# Altium schematic symbol library fgr.SchLib: 756 symbols (part 3 of 4)
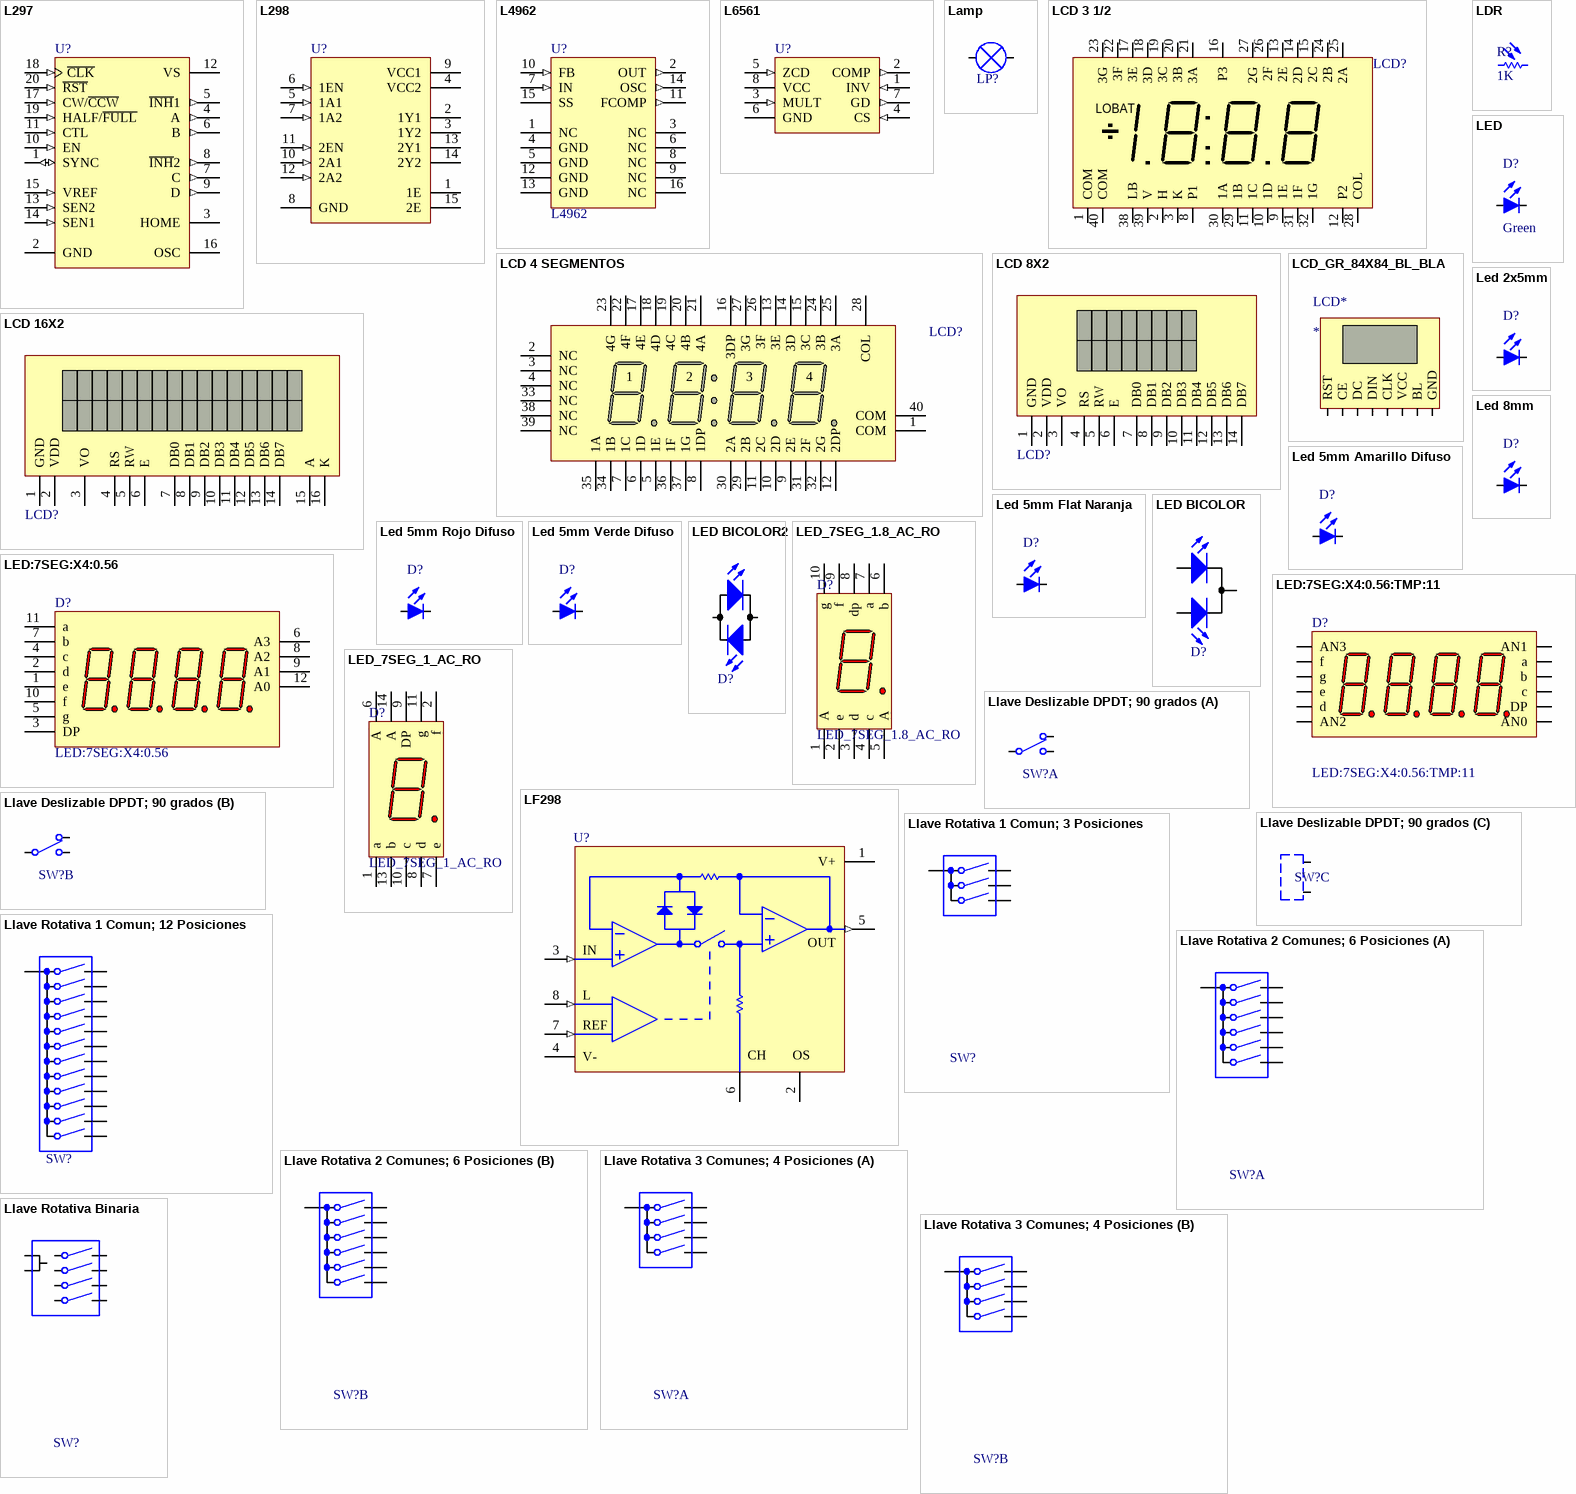
[diagram p26: symbols L297 to Llave Rotativa Binaria]

## LDR
designator R?  value 1K  (hidden comment: LDR)
Resistor; Power: 0.25W; Price: 0.036
footprint RES250TH (RESISTENCIA THROUGH-HOLE)
footprint RES300TH (RESISTENCIA THROUGH-HOLE)
simulation model RESISTOR (Resistor)
footprint RES1100TH_ALAMBRE (RESISTOR DE ALAMBRE)
footprint res900th
footprint 1206NP
footprint 0805
footprint res400th
footprint res800th
footprint res500th
footprint RES2100TH_ALAMBRE
footprint RES1500TH_ALAMBRE
footprint res800th_vertical
footprint res250th_vertical
pins: 1, 2

## LED
designator D?  Color: Green  (hidden comment: LED)
Price: ?
footprint LED3mm (LED 3MM)
footprint LED5MMRECOSTADO (LED 5MM)
footprint LEDRECT (LED RECTANGULAR)
footprint LED5MM (LED 5MM)
footprint HDR2x1 (HEADER 2x1)
simulation model LED (DIODE)
footprint 1206P
footprint 3528 (Body 3.5 x 2.8 mm (LxW typ))
pins: 1 A, 2 K

## Led 2x5mm
designator D?  (value not drawn)
Codigo Ebay: NA; Dolares Ebay: 0.06
simulation model LED (DIODE)
footprint LED 2x5mm (LED 5MM)
pins: 1 A, 2 K

## Led 5mm Amarillo Difuso
designator D?  (value not drawn)
Codigo Ebay: NA; Dolares Ebay: 0.06
simulation model LED (DIODE)
footprint LED5mm YELLOW (LED 5MM)
pins: 1 A, 2 K

## Led 5mm Flat Naranja
designator D?  (value not drawn)
Dolares Ebay: 0.06; Codigo Ebay: NA
footprint LED5mm flat naranja
simulation model LED (DIODE)
pins: 1 A, 2 K

## Led 5mm Rojo Difuso
designator D?  (value not drawn)
Codigo Ebay: NA; Dolares Ebay: 0.06
simulation model LED (DIODE)
footprint LED5mm ROJO (LED 5MM)
pins: 1 A, 2 K

## Led 5mm Verde Difuso
designator D?  (value not drawn)
Codigo Ebay: NA; Dolares Ebay: 0.06
simulation model LED (DIODE)
footprint LED5mm VERDE (LED 5MM)
pins: 1 A, 2 K

## Led 8mm
designator D?  (value not drawn)
simulation model LED (DIODE)
footprint LED8mm (LED 8MM)
pins: 1 A, 2 K

## LED BICOLOR
designator D?
Bicolor led
footprint led bicolor 5mm
pins: 1 A, 2 K, 3 A

## LED BICOLOR2
designator D?
Bicolor led
footprint led5mm (LED 5MM)
pins: 1 A, 2 K

## LED:7SEG:X4:0.56
designator D?
footprint LED:7SEG:X4:0.56
pins: 1 e "Cathode", 2 d "Cathode", 3 DP "Cathode", 4 c "Cathode", 5 g "Cathode", 6 A3 "Anode", 7 b "Cathode", 8 A2 "Anode", 9 A1 "Anode", 10 f "Cathode", 11 a "Cathode", 12 A0 "Anode"

## LED:7SEG:X4:0.56:TMP:11
designator D?
footprint LED:7SEG:X4:0.56
pins: 1 AN3 "Cathode", 2 f "Cathode", 3 g "Cathode", 4 e "Cathode", 5 d "Cathode", 6 AN2 "Cathode", 7 AN0 "Cathode", 8 DP "Cathode", 9 c "Anode", 10 b "Anode", 11 a "Anode", 12 AN1 "Anode"

## LED_7SEG_1.8_AC_RO
designator D?
footprint LED_7SEG_1.8_AC_RO
pins: 1 A "Cathode", 2 e "Cathode", 3 d "Cathode", 3 A "Anode", 4 c "Cathode", 5 A "Cathode", 6 b "Cathode", 7 a "Cathode", 8 dp "Cathode", 9 f "Anode", 10 g "Anode"

## LED_7SEG_1_AC_RO
designator D?
footprint LED_7SEG_1_AC_RO
pins: 1 a "Cathode", 2 f "Cathode", 3 A "Anode", 6 A "Anode", 7 e "Cathode", 8 d "Cathode", 9 DP "Cathode", 10 c "Cathode", 11 g "Cathode", 13 b "Cathode", 14 A "Anode"

## LF298
designator U?
Monolithic Sample-and-Hold Circuits; Price: ?
simulation model LFX98 (Model Description)
pins: 1 V+ (power), 2 OFFSET, 3 INPUT (in), 4 V- (power), 5 OUTPUT (out), 6 CH, 7 REF (in), 8 LOGIC (in)
text: OUT; IN; L; OS

## Llave Deslizable DPDT; 90 grados
designator SW?  (value not drawn)
Price: ?
footprint sw2x2 (2 Switchs de 2 posiciones)
footprint SW_90_DPDT (HEADER 3x2)
part A pins: 1 CCW, 3 COMM, 5 CW
part B pins: 2 CCW, 4 COMM, 6 CW
part C pins: 7, 8

## Llave Rotativa 1 Comun; 3 Posiciones
designator SW?  (value not drawn)
pins: 1, 2, 3, 4

## Llave Rotativa 1 Comun; 12 Posiciones
designator SW?  (value not drawn)
footprint LLAVE_ROTATIVA_1P_12W
pins: 1, 2, 3, 4, 5, 6, 7, 8, 9, 10, 11, 12, 13

## Llave Rotativa 2 Comunes; 6 Posiciones
designator SW?  (value not drawn)
footprint LLAVE_ROTATIVA_2P_6W
part A pins: 1, 2, 3, 4, 5, 6, 7
part B pins: 8, 9, 10, 11, 12, 13, 14

## Llave Rotativa 3 Comunes; 4 Posiciones
designator SW?  (value not drawn)
footprint LLAVE_ROTATIVA_2P_6W
part A pins: 8, 9, 10, 11, 12
part B pins: 8, 9, 10, 11, 12

## Llave Rotativa Binaria
designator SW?  (value not drawn)
footprint SW_ROTATIVO_BINARIO
pins: 1, 2, 3, 4, 5, 6

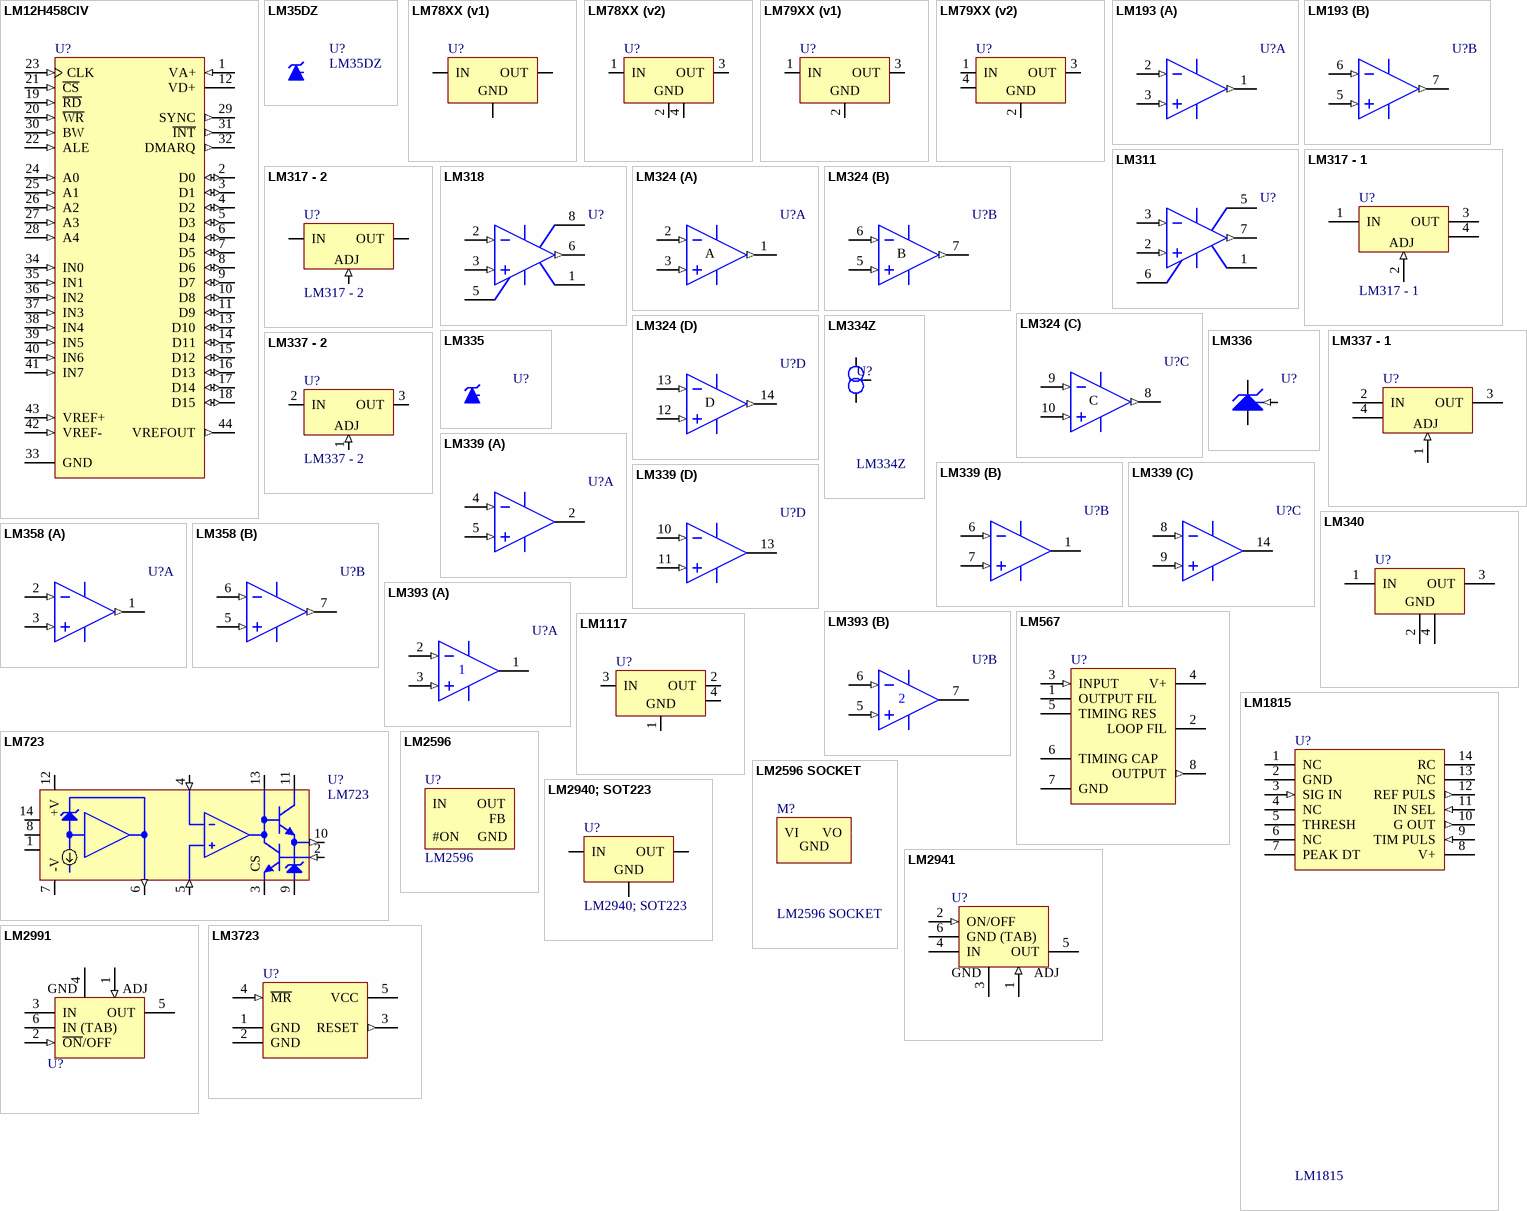
[diagram p13: symbols LM12H458CIV to LM3723]

## LM12H458CIV
designator U?
12-Bit Plus Sign Data Acquisition System with Self-Calibration; Price: ?
footprint PLCC44 (ZOCALO PLCC 44)
pins: 1 VA+ (in), 2 D0 (io), 3 D1 (io), 4 D2 (io), 5 D3 (io), 6 D4 (io), 7 D5 (io), 8 D6 (io), 9 D7 (io), 10 D8 (io), 11 D9 (io), 12 VD+ (power), 13 D10 (io), 14 D11 (io), 15 D12 (io), 16 D13 (io), 17 D14 (io), 18 D15 (io), 19 ~{RD} (in), 20 ~{WR} (in), 21 ~{CS} (in), 22 ALE (in), 23 CLK (in), 24 A0 (in), 25 A1 (in), 26 A2 (in), 27 A3 (in), 28 A4 (in), 29 SYNC (out), 30 BW (in), 31 ~{INT} (out), 32 DMARQ (out), 33 GND (power), 34 IN0 (in), 35 IN1 (in), 36 IN2 (in), 37 IN3 (in), 38 IN4 (in), 39 IN5 (in), 40 IN6 (in), 41 IN7 (in), 42 VREF- (in), 43 VREF+ (in), 44 VREFOUT (out)

## LM35DZ
designator U?
Temperature Sensor; Price: ?
footprint TO92B; pin to pad 1>3 3>1
pins: 1 K, 2 A, 3 REF

## LM78XX (v1)
designator U?
3-Terminal Positive Regulator; Price: ?
footprint TO220 (DISPOSITIVO DE ENCAPSULADO TO-220)
footprint TO220_2
pins: 1 IN (power), 2 GND (power), 3 OUT (power)

## LM78XX (v2)
designator U?
3-Terminal Positive Regulator; Price: ?
footprint SOT223 (ENCAPSULADO SOT-223)
footprint to263-3 (ENCAPSULADO TO263)
footprint TO220_2
pins: 1 IN (power), 2 GND (power), 3 OUT (power), 4 GND (power)

## LM79XX (v1)
designator U?
3-Terminal Negative Regulator; Price: ?
footprint TO220 (DISPOSITIVO DE ENCAPSULADO TO-220); pin to pad 1>2 2>1
footprint TO92B; pin to pad 1>2 2>1
pins: 1 IN (power), 2 GND (power), 3 OUT (power)

## LM79XX (v2)
designator U?
3-Terminal Negative Regulator; Price: ?
footprint TO220_2; pin to pad 1>2 2>1
pins: 1 IN (power), 2 GND (power), 3 OUT (power), 4 IN (TAB) (power)

## LM193
designator U?
Low-Power Low Offset Voltage Dual  Comparator
footprint so8 (SO8 IC)
pins on every part: 4 GND (power), 8 V+ (power)
part A pins: 1 OUT (out), 2 IN- (in), 3 IN+ (in)
part B pins: 5 IN+ (in), 6 IN- (in), 7 OUT (out)

## LM311
designator U?
Single Comparator; Price: ?
footprint DIP8z (ZOCALO DIP 8)
footprint so8 (SO8 IC)
pins: 1 GND (power), 2 IN+ (in), 3 IN- (in), 4 V- (power), 5 OFFSET1, 6 OFFSET2, 7 OUT (out), 8 V+ (power)

## LM317 - 1
designator U?
Adjustable Positive Voltage Regulator; Price: ?
footprint SOT223 (ENCAPSULADO SOT-223); pin to pad 1>3 2>1 3>2
footprint TO220_2; pin to pad 1>3 2>1 3>2
pins: 1 IN (power), 2 ADJ (in), 3 OUT (power), 4 OUT (TAB) (power)

## LM317 - 2
designator U?
Adjustable Positive Voltage Regulator; Price: ?
footprint to220 (DISPOSITIVO DE ENCAPSULADO TO-220); pin to pad 1>3 2>1 3>2
footprint TO220_V (DISPOSITIVO DE ENCAPSULADO TO-220); pin to pad 1>3 2>1 3>2
pins: 1 IN (power), 2 ADJ (in), 3 OUT (power)

## LM318
designator U?
High Speed Operational Amplifier; Price: ?
footprint DIP8z (ZOCALO DIP 8)
footprint so8 (SO8 IC)
pins: 1 OFFSET2, 2 IN- (in), 3 IN+ (in), 4 V- (power), 5 OFFSET1, 6 OUT (out), 7 V+ (power), 8 NC

## LM324
designator U?
Low Power Quad Operational Amplifier; Revision: 17-Jul-2002: Re-released for DXP Platform.
footprint DIP14Z (ZOCALO DIP14)
footprint so14 (SO14 IC)
pins on every part: 4 V+ (power), 11 V- (power)
part A pins: 1 OUT (out), 2 IN- (in), 3 IN+ (in)
part B pins: 5 IN+ (in), 6 IN- (in), 7 OUT (out)
part C pins: 8 OUT (out), 9 IN- (in), 10 IN+ (in)
part D pins: 12 IN+ (in), 13 IN- (in), 14 OUT (out)
part A text: A
part B text: B
part C text: C
part D text: D

## LM334Z
designator U?
3-Terminal Adjustable Current Source
footprint to92 (DISPOSITIVO DE ENCAPSULADO TO-92)
pins: 1 V+, 2 R, 3 V-

## LM335
designator U?
Temperature Sensor; Price: ?
footprint TO92B; pin to pad 1>3 3>1
pins: 1 K, 2 A, 3 REF

## LM336
designator U?
Reference Diode
footprint to92 (DISPOSITIVO DE ENCAPSULADO TO-92)
footprint to92b
pins: 1 -V, 2 +V, 3 ADJ (in)

## LM337 - 1
designator U?
Adjustable Negative Voltage Regulator; Price: ?
footprint SOT223 (ENCAPSULADO SOT-223)
footprint TO220_2
pins: 1 ADJ (in), 2 IN (power), 3 OUT (power), 4 IN (TAB) (power)

## LM337 - 2
designator U?
Adjustable Negative Voltage Regulator; Price: ?
footprint TO220 (DISPOSITIVO DE ENCAPSULADO TO-220)
footprint to220_v (DISPOSITIVO DE ENCAPSULADO TO-220)
pins: 1 ADJ (in), 2 IN (power), 3 OUT (power)

## LM339
designator U?
Quad Single-Supply Comparator
footprint so14 (SO14 IC)
pins on every part: 3 V+ (power), 12 GND (power)
part A pins: 2 OUT (oc), 4 IN- (in), 5 IN+ (in)
part B pins: 1 OUT (oc), 6 IN- (in), 7 IN+ (in)
part C pins: 8 IN- (in), 9 IN+ (in), 14 OUT (oc)
part D pins: 10 IN- (in), 11 IN+ (in), 13 OUT (oc)

## LM340
designator U?
3-Terminal Positive Regulator; Price: ?
footprint SOT223 (ENCAPSULADO SOT-223)
footprint to263-3 (ENCAPSULADO TO263)
footprint TO220_2
pins: 1 IN (power), 2 GND (power), 3 OUT (power), 4 GND (power)

## LM358
designator U?
Low-Power Dual Operational Amplifier
footprint DIP8Z (ZOCALO DIP 8)
pins on every part: 4 GND (power), 8 V+ (power)
part A pins: 1 OUT (out), 2 IN- (in), 3 IN+ (in)
part B pins: 5 IN+ (in), 6 IN- (in), 7 OUT (out)

## LM393
designator U?
Dual Differential Comparator
footprint SO8 (SO8 IC)
simulation model LM393 (SUBCKT)
footprint DIP8Z (ZOCALO DIP 8)
pins on every part: 4 GND (power), 8 VCC (power)
part A pins: 1 OUT (oc), 2 IN- (in), 3 IN+ (in)
part B pins: 5 IN+ (in), 6 IN- (in), 7 OUT (oc)

## LM567
designator U?
Tone Decoder
footprint DIP8Z (ZOCALO DIP 8)
pins: 1 OUTPUT FIL, 2 LOOP FIL, 3 INPUT (in), 4 V+ (power), 5 TIMING RES, 6 TIMING CAP, 7 GND (power), 8 OUTPUT (out)

## LM723
designator U?
Voltage Regulator
footprint DIP14 (DIP14 IC)
simulation model lm723 (Model Description)
pins: 1 NC, 2 ILIM (in), 3 ISEN, 4 IN- (in), 5 IN+ (in), 6 VREF (out), 7 -V (power), 8 NC, 9 VZ, 10 VO (out), 11 VCC (power), 12 +V (power), 13 FCOMP, 14 NC
text: CS

## LM1117
designator U?
3-Terminal Positive Regulator; Price: ?
footprint SOT223 (ENCAPSULADO SOT-223)
pins: 1 GND (power), 2 OUT (power), 3 IN (power), 4 GND (power)

## LM1815
designator U?
Price: ?
footprint so14 (SO14 IC)
pins: 1 NC, 2 GND (power), 3 SIG IN (in), 4 NC, 5 THRESH, 6 NC, 7 PEAK DT, 8 V+ (power), 9 TIM PULS (in), 10 G OUT (out), 11 IN SEL (in), 12 REF PULS (out), 13 NC, 14 RC

## LM2596
designator U?
Codigo Elemon: CI2707460; Dolares Elemon: 0.37399
footprint TO220-5
footprint TO220_2
pins: 1 IN (power), 2 OUT (power), 3 GND (power), 4 FB (power), 5 #ON (power)

## LM2596 SOCKET
designator M?
footprint LM2596 SOCKET
pins: 1 VI (power), 2 GND (power), 3 GND (power), 4 VO (power), 5 ADJ1 (power), 6 ADJ2 (power), 7 ADJ3 (power)

## LM2940; SOT223
designator U?
Dolares Elemon: 1.07900; Codigo Elemon: CI2707266
footprint SOT223 (ENCAPSULADO SOT-223)
pins: 1 IN (power), 2 GND (power), 3 OUT (power)

## LM2941
designator U?
1A Dropout Adjustable Regulator; Price: ?
footprint to263-5 (ENCAPSULADO TO263)
pins: 1 ADJ (in), 2 ON/OFF (in), 3 GND (power), 4 IN (power), 5 OUT (power), 6 GND (TAB) (power)

## LM2991
designator U?
Negative Low-Dropout Adjustable Regulator; Price: ?
footprint TO263 (ENCAPSULADO TO263)
pins: 1 ADJ (in), 2 ~{ON}/OFF (in), 3 IN (power), 4 GND (power), 5 OUT (power), 6 IN (TAB) (power)

## LM3723
designator U?
Microprocessor Reset Circuit; Price: ?
footprint sot23-5
pins: 1 GND (power), 2 GND (power), 3 RESET (out), 4 ~{MR} (in), 5 VCC (power)

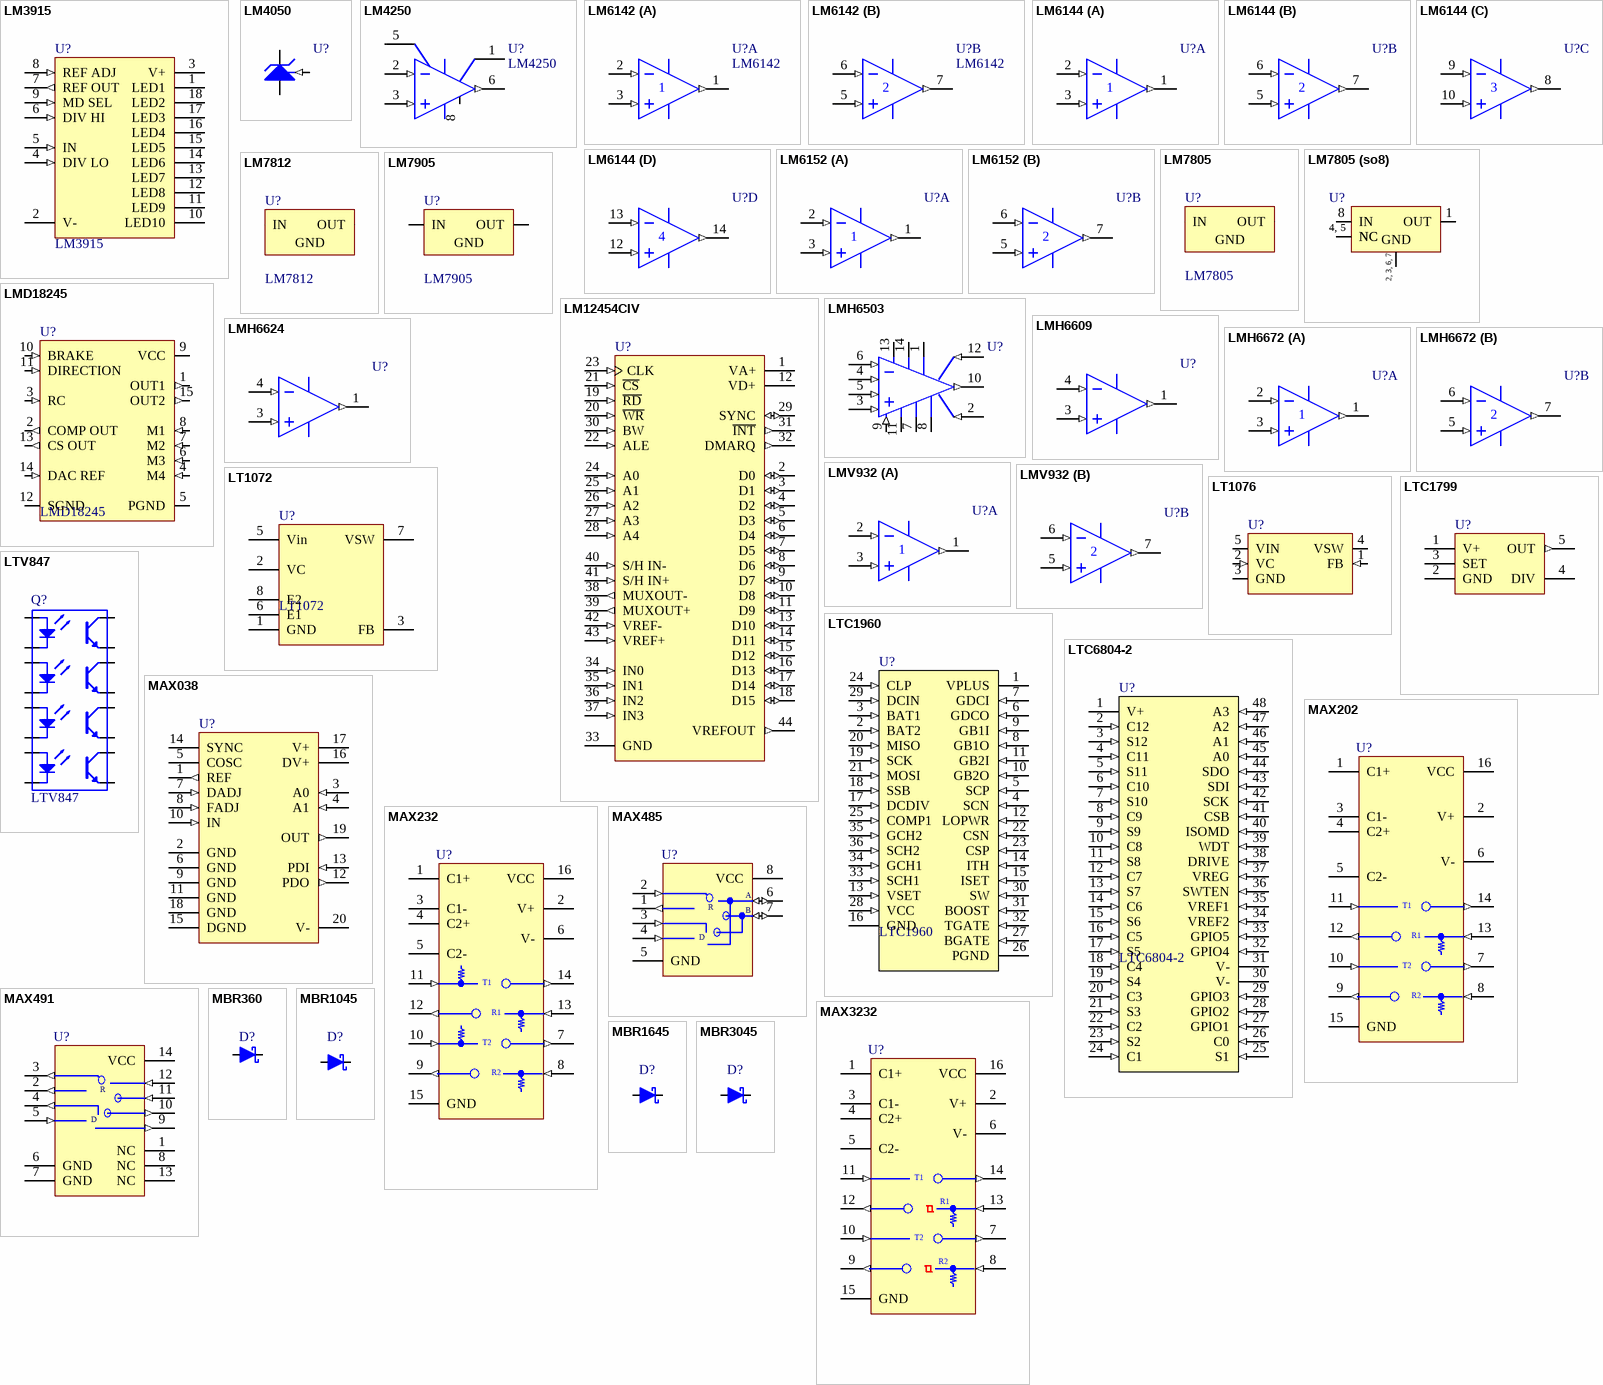
[diagram p14: symbols LM3915 to MBR3045]

## LM3915
designator U?
Dot/Bar Display Driver
footprint dip18z (ZOCALO DIP18)
pins: 1 LED1 (oc), 2 V- (power), 3 V+ (power), 4 DIV LO (in), 5 IN (in), 6 DIV HI (in), 7 REF OUT (out), 8 REF ADJ (in), 9 MD SEL (in), 10 LED10 (oc), 11 LED9 (oc), 12 LED8 (oc), 13 LED7 (oc), 14 LED6 (oc), 15 LED5 (oc), 16 LED4 (oc), 17 LED3 (oc), 18 LED2 (oc)

## LM4050
designator U?
Reference Diode
footprint to92 (DISPOSITIVO DE ENCAPSULADO TO-92)
footprint sot23 (SOT23)
pins: 1 +V, 2 -V, 3 ADJ (in)

## LM4250
designator U?
Operational Amplifier; Price: ?
footprint DIP8z (ZOCALO DIP 8)
pins: 1 OFFSET2, 2 IN- (in), 3 IN+ (in), 4 V- (power), 5 OFFSET1, 6 OUT (out), 7 V+ (power), 8 SET

## LM6142
designator U?
High-Speed/Low-Power 17MHz Rail-to-Rail, Input-Output Operational Amplifier; Price: ?
footprint SO8 (SO8 IC)
simulation model LM6142A (Model Description)
pins on every part: 4 V- (power), 8 V+ (power)
part A pins: 1 OUT (out), 2 IN- (in), 3 IN+ (in)
part B pins: 5 IN+ (in), 6 IN- (in), 7 OUT (out)

## LM6144
designator U?
High-Speed/Low-Power 17MHz Rail-to-Rail, Input-Output Operational Amplifier; Price: ?
footprint SO14 (SO14 IC)
pins on every part: 4 V+ (power), 11 V- (power)
part A pins: 1 OUT (out), 2 IN- (in), 3 IN+ (in)
part B pins: 5 IN+ (in), 6 IN- (in), 7 OUT (out)
part C pins: 8 OUT (out), 9 IN- (in), 10 IN+ (in)
part D pins: 12 IN+ (in), 13 IN- (in), 14 OUT (out)

## LM6152
designator U?
Dual High-Speed/Low-Power 75MHz GBW Rail-to-Rail I/O Operational Amplifier; Price: ?
simulation model LM6152A_NSC (SUBCKT)
pins on every part: 4 V- (power), 8 V+ (power)
part A pins: 1 OUT (out), 2 IN- (in), 3 IN+ (in)
part B pins: 5 IN+ (in), 6 IN- (in), 7 OUT (out)

## LM7805
designator U?
Codigo Elemon: CI2707460; Dolares Elemon: 0.37399
footprint TO220 (DISPOSITIVO DE ENCAPSULADO TO-220)
footprint TO220_2
pins: 1 IN (power), 2 GND (power), 3 OUT (power)

## LM7805 (so8)
designator U?
Positive-Voltage Regulator
footprint SO8 (SO8 IC)
pins: 1 OUT (power), 2 GND (power), 3 GND (power), 4 NC, 5 NC, 6 GND (power), 7 GND (power), 8 IN (power)
text: 4, 5; 2, 3, 6, 7

## LM7812
designator U?
Codigo Elemon: CI270LIN007812S; Dolares Elemon: 0.33880
footprint TO220 (DISPOSITIVO DE ENCAPSULADO TO-220)
footprint TO220_2
pins: 1 IN (power), 2 GND (power), 3 OUT (power)

## LM7905
designator U?
footprint TO220 (DISPOSITIVO DE ENCAPSULADO TO-220)
footprint TO220_2
pins: 1 GND (power), 2 IN (power), 3 OUT (power)

## LM12454CIV
designator U?
12-Bit Plus Sign Data Acquisition System with Self-Calibration; Price: ?
footprint PLCC44 (ZOCALO PLCC 44)
pins: 1 VA+ (power), 2 D0 (io), 3 D1 (io), 4 D2 (io), 5 D3 (io), 6 D4 (io), 7 D5 (io), 8 D6 (io), 9 D7 (io), 10 D8 (io), 11 D9 (io), 12 VD+ (power), 13 D10 (io), 14 D11 (io), 15 D12 (io), 16 D13 (io), 17 D14 (io), 18 D15 (io), 19 ~{RD} (in), 20 ~{WR} (in), 21 ~{CS} (in), 22 ALE (in), 23 CLK (in), 24 A0 (in), 25 A1 (in), 26 A2 (in), 27 A3 (in), 28 A4 (in), 29 SYNC (io), 30 BW (in), 31 ~{INT} (out), 32 DMARQ (out), 33 GND (power), 34 IN0 (in), 35 IN1 (in), 36 IN2 (in), 37 IN3 (in), 38 MUXOUT- (out), 39 MUXOUT+ (out), 40 S/H IN- (in), 41 S/H IN+ (in), 42 VREF- (in), 43 VREF+ (in), 44 VREFOUT (out)

## LMD18245
designator U?
Dual Full-H Driver; Price: ?
footprint TO220-15 (DISPOSITIVO DE ENCAPSULADO TO-220 DE 15 PNES)
pins: 1 OUT1 (out), 2 COMP OUT (out), 3 RC (in), 4 M4 (in), 5 PGND (power), 6 M3 (in), 7 M2 (in), 8 M1 (in), 9 VCC (power), 10 BRAKE (in), 11 DIRECTION (in), 12 SGND (power), 13 CS OUT (out), 14 DAC REF (in), 15 OUT2 (out)

## LMH6503
designator U?
Wideband, Low Power, Linear Variable Gain Amplifier; Price: ?
simulation model LMH6503 (SUBCKT)
pins: 1 V+ (power), 2 VG (in), 3 IN+ (in), 4 RG+ (in), 5 RG- (in), 6 IN- (in), 7 V- (power), 8 V- (power), 9 VREF (in), 10 OUT (out), 11 GND (power), 12 I- (in), 13 NC, 14 V+ (power)

## LMH6609
designator U?
Operational Amplifier; Price: ?
simulation model LMH6609 (SUBCKT)
pins: 1 OUT (out), 2 V- (power), 3 IN+ (in), 4 IN- (in), 5 V+ (power)

## LMH6624
designator U?
Operational Amplifier; Price: ?
simulation model LMH6624 (SUBCKT)
pins: 1 OUT (out), 2 V- (power), 3 IN+ (in), 4 IN- (in), 5 V+ (power)

## LMH6672
designator U?
Dual, High Output Current, High Speed Op Amp; Price: ?
footprint SOIC8 (Small Outline; 8 Leads; Body Width 6 mm; Pitch 1.27 mm)
pins on every part: 4 V- (power), 8 V+ (power)
part A pins: 1 OUT (out), 2 IN- (in), 3 IN+ (in)
part B pins: 5 IN+ (in), 6 IN- (in), 7 OUT (out)

## LMV932
designator U?
Rail-to-Rail, Input-Output Operational Amplifier; Price: ?
footprint MSOP8-065
pins on every part: 4 V- (power), 8 V+ (power)
part A pins: 1 OUT (out), 2 IN- (in), 3 IN+ (in)
part B pins: 5 IN+ (in), 6 IN- (in), 7 OUT (out)

## LT1072
designator U?
footprint DIP8Z (ZOCALO DIP 8)
pins: 1 GND (power), 2 VC, 3 FB, 5 Vin (power), 6 E1, 7 VSW, 8 E2

## LT1076
designator U?
Step-Down Switching Regulator
footprint TO220 - 5 - 90
pins: 1 FB (in), 2 VC (in), 3 GND (power), 4 VSW (power), 5 VIN (power)

## LTC1799
designator U?
1kHz to 33MHz / Resistor Set SOT-23 Oscillator; Revision: 17-Jul-2002: Re-released for DXP Platform.
footprint DIP8Z (ZOCALO DIP 8)
footprint SOT23-5
pins: 1 V+ (power), 2 GND (power), 3 SET, 4 DIV, 5 OUT (out)

## LTC1960
designator U?
Revision: 17-Jul-2002: Re-released for DXP Platform.
footprint TSSOP36_065
pins: 1 VPLUS (power), 2 BAT2 (in), 3 BAT1 (in), 4 SCN (in), 5 SCP (in), 6 GDCO (in), 7 GDCI (in), 8 GB1O (in), 9 GB1I (in), 10 GB2O (in), 11 GB2I (in), 12 LOPWR (in), 13 VSET (in), 14 ITH (in), 15 ISET (in), 16 GND (power), 17 DCDIV (in), 18 SSB (in), 19 SCK (in), 20 MISO (in), 21 MOSI (in), 22 CSN (in), 23 CSP (in), 24 CLP (in), 25 COMP1 (in), 26 PGND (power), 27 BGATE (in), 28 VCC (in), 29 DCIN (in), 30 SW (in), 31 BOOST (in), 32 TGATE (in), 33 SCH1 (in), 34 GCH1 (in), 35 GCH2 (in), 36 SCH2 (in)

## LTC6804-2
designator U?
Revision: 17-Jul-2002: Re-released for DXP Platform.
footprint TSSOP48_05 (TSSOP 48 IC)
pins: 1 V+ (power), 2 C12 (in), 3 S12 (in), 4 C11 (in), 5 S11 (in), 6 C10 (in), 7 S10 (in), 8 C9 (in), 9 S9 (in), 10 C8 (in), 11 S8 (in), 12 C7 (in), 13 S7 (in), 14 C6 (in), 15 S6 (in), 16 C5 (in), 17 S5 (in), 18 C4 (in), 19 S4 (in), 20 C3 (in), 21 S3 (in), 22 C2 (in), 23 S2 (in), 24 C1 (in), 25 S1 (in), 26 C0 (in), 27 GPIO1 (in), 28 GPIO2 (in), 29 GPIO3 (in), 30 V- (power), 31 V- (power), 32 GPIO4 (in), 33 GPIO5 (in), 34 VREF2 (in), 35 VREF1 (in), 36 SWTEN (in), 37 VREG (in), 38 DRIVE (in), 39 WDT (in), 40 ISOMD (in), 41 CSB (in), 42 SCK (in), 43 SDI (in), 44 SDO (in), 45 A0 (in), 46 A1 (in), 47 A2 (in), 48 A3 (in)

## LTV847
designator Q?
Optoaislador; Price: ?
footprint DIP16Z (ZOCALO DIP16)
pins: 1 A, 2 K, 3 A, 4 K, 5 A, 6 K, 7 A, 8 K, 9 E, 10 C, 11 E, 12 C, 13 E, 14 C, 15 E, 16 C

## MAX038
designator U?
High-Frequency Waveform Generator; Revision: 17-Jul-2002: Re-released for DXP Platform.
footprint DIP20Z
pins: 1 REF (out), 2 GND (power), 3 A0 (in), 4 A1 (in), 5 COSC, 6 GND (power), 7 DADJ (in), 8 FADJ (in), 9 GND (power), 10 IN (in), 11 GND (power), 12 PDO (out), 13 PDI (in), 14 SYNC, 15 DGND (power), 16 DV+ (power), 17 V+ (power), 18 GND (power), 19 OUT (out), 20 V- (power)

## MAX202
designator U?
+5V-Powered, Multichannel RS-232 Driver/Receiver; Price: ?
footprint DIP16 (DIP16 IC)
footprint DIP16Z (ZOCALO DIP16)
footprint so16 (SO16 IC)
pins: 1 C1+, 2 V+ (power), 3 C1-, 4 C2+, 5 C2-, 6 V- (power), 7 T2OUT (out), 8 R2IN (in), 9 R2OUT (out), 10 T2IN (in), 11 T1IN (in), 12 R1OUT (out), 13 R1IN (in), 14 T1OUT (out), 15 GND (power), 16 VCC (power)
text: T1; R1; T2; R2

## MAX232
designator U?
+5V-Powered, Multichannel RS-232 Driver/Receiver; Price: ?
footprint DIP16 (DIP16 IC)
footprint DIP16Z (ZOCALO DIP16)
pins: 1 C1+, 2 V+ (power), 3 C1-, 4 C2+, 5 C2-, 6 V- (power), 7 T2OUT (out), 8 R2IN (in), 9 R2OUT (out), 10 T2IN (in), 11 T1IN (in), 12 R1OUT (out), 13 R1IN (in), 14 T1OUT (out), 15 GND (power), 16 VCC (power)
text: T1; R1; T2; R2

## MAX485
designator U?
Low-Power, Slew-Rate-Limited RS-485/RS-422 Transceiver; Revision: 17-Jul-2002: Re-released for DXP Platform.
footprint DIP8Z (ZOCALO DIP 8)
pins: 1 RO (out), 2 ~{RE} (in), 3 DE (in), 4 DI (in), 5 GND (power), 6 A (io), 7 B (io), 8 VCC (power)
text: R; D

## MAX491
designator U?
Low-Power, Slew-Rate-Limited RS-485/RS-422 Transceiver; Revision: 17-Jul-2002: Re-released for DXP Platform.
footprint DIP14Z (ZOCALO DIP14)
pins: 1 NC, 2 RO (out), 3 ~{RE} (out), 4 DE (out), 5 DI (in), 6 GND (power), 7 GND (power), 8 NC, 9 Y (out), 10 Z (out), 11 B (in), 12 A (in), 13 NC, 14 VCC (power)
text: R; D

## MAX3232
designator U?
+3.3V to +5V Multichannel RS-232 Driver/Receiver; Price: ?
footprint DIP16 (DIP16 IC)
footprint DIP16Z (ZOCALO DIP16)
pins: 1 C1+, 2 V+ (power), 3 C1-, 4 C2+, 5 C2-, 6 V- (power), 7 T2OUT (out), 8 R2IN (in), 9 R2OUT (out), 10 T2IN (in), 11 T1IN (in), 12 R1OUT (out), 13 R1IN (in), 14 T1OUT (out), 15 GND (power), 16 VCC (power)
text: T1; R1; T2; R2

## MBR360
designator D?
Schottky Diode 3A 60V; Revision: July-2002: Re-released for DXP Platform.
footprint DIODE300 (DIODO THROUGH-HOLE)
footprint diode600
simulation model MBR360 (MDL)
pins: 1 A, 2 K

## MBR1045
designator D?
Schottky Diode 10A 45V; Revision: July-2002: Re-released for DXP Platform.
simulation model MBR1045 (MDL)
footprint TO220-2; pin to pad 1>2 2>1
pins: 1 A, 2 K

## MBR1645
designator D?
Schottky Diode 16A 45V; Revision: July-2002: Re-released for DXP Platform.
simulation model MBR1645 (MDL)
footprint TO220-2; pin to pad 1>2 2>1
footprint TO220_4
pins: 1 A, 2 K

## MBR3045
designator D?
Schottky Diode 30A 45V; Revision: July-2002: Re-released for DXP Platform.
simulation model MBR3045 (MDL)
pins: 1 A, 2 K

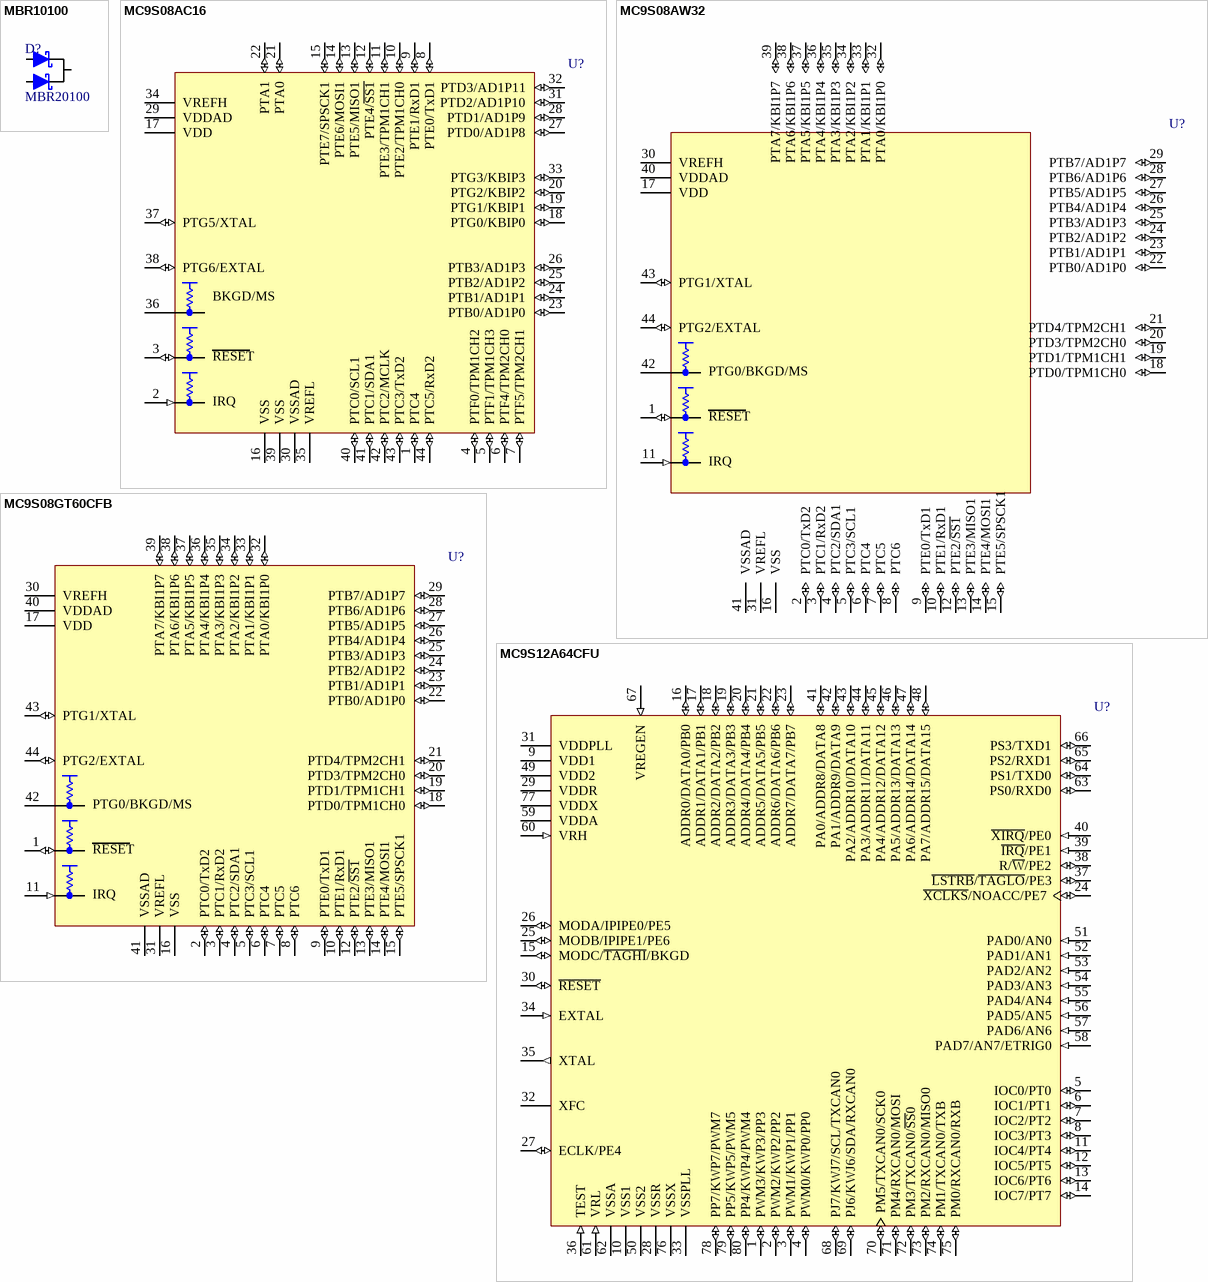
[diagram p15: symbols MBR10100 to MC9S12A64CFU]

## MBR10100
designator D?, comment MBR20100
Schottky Diode 10A 45V; Revision: July-2002: Re-released for DXP Platform.
footprint TO220 (DISPOSITIVO DE ENCAPSULADO TO-220); pin to pad 1>2 2>1
pins: 1 A, 2 K, 3 A

## MC9S08AC16
designator U?
8-Bit Microcontroller
footprint QFP44_08MM
pins: 1 PTC4 (io), 2 IRQ (in), 3 ~{RESET} (io), 4 PTF0/TPM1CH2 (io), 5 PTF1/TPM1CH3 (io), 6 PTF4/TPM2CH0 (io), 7 PTF5/TPM2CH1 (io), 8 PTE0/TxD1 (io), 9 PTE1/RxD1 (io), 10 PTE2/TPM1CH0 (io), 11 PTE3/TPM1CH1 (io), 12 PTE4/~{SS1} (io), 13 PTE5/MISO1 (io), 14 PTE6/MOSI1 (io), 15 PTE7/SPSCK1 (io), 16 VSS (power), 17 VDD (power), 18 PTG0/KBIP0 (io), 19 PTG1/KBIP1 (io), 20 PTG2/KBIP2 (io), 21 PTA0 (io), 22 PTA1 (io), 23 PTB0/AD1P0 (io), 24 PTB1/AD1P1 (io), 25 PTB2/AD1P2 (io), 26 PTB3/AD1P3 (io), 27 PTD0/AD1P8 (io), 28 PTD1/AD1P9 (io), 29 VDDAD (power), 30 VSSAD (power), 31 PTD2/AD1P10 (io), 32 PTD3/AD1P11 (io), 33 PTG3/KBIP3 (io), 34 VREFH (power), 35 VREFL (power), 36 BKGD/MS, 37 PTG5/XTAL (io), 38 PTG6/EXTAL (io), 39 VSS (power), 40 PTC0/SCL1 (io), 41 PTC1/SDA1 (io), 42 PTC2/MCLK (io), 43 PTC3/TxD2 (io), 44 PTC5/RxD2 (io)
text: RESET

## MC9S08AW32
designator U?
8-Bit Microcontroller
footprint QFP64_08MM (Footprint not found)
pins: 1 ~{RESET} (io), 2 PTC0/TxD2 (io), 3 PTC1/RxD2 (io), 4 PTC2/SDA1 (io), 5 PTC3/SCL1 (io), 6 PTC4 (io), 7 PTC5 (io), 8 PTC6 (io), 9 PTE0/TxD1 (io), 10 PTE1/RxD1 (io), 11 IRQ (in), 12 PTE2/~{SS1} (io), 13 PTE3/MISO1 (io), 14 PTE4/MOSI1 (io), 15 PTE5/SPSCK1 (io), 16 VSS (power), 17 VDD (power), 18 PTD0/TPM1CH0 (io), 19 PTD1/TPM1CH1 (io), 20 PTD3/TPM2CH0 (io), 21 PTD4/TPM2CH1 (io), 22 PTB0/AD1P0 (io), 23 PTB1/AD1P1 (io), 24 PTB2/AD1P2 (io), 25 PTB3/AD1P3 (io), 26 PTB4/AD1P4 (io), 27 PTB5/AD1P5 (io), 28 PTB6/AD1P6 (io), 29 PTB7/AD1P7 (io), 30 VREFH (power), 31 VREFL (power), 32 PTA0/KBI1P0 (io), 33 PTA1/KBI1P1 (io), 34 PTA2/KBI1P2 (io), 35 PTA3/KBI1P3 (io), 36 PTA4/KBI1P4 (io), 37 PTA5/KBI1P5 (io), 38 PTA6/KBI1P6 (io), 39 PTA7/KBI1P7 (io), 40 VDDAD (power), 41 VSSAD (power), 42 PTG0/BKGD/MS, 43 PTG1/XTAL (io), 44 PTG2/EXTAL (io)
text: RESET

## MC9S08GT60CFB
designator U?
8-Bit Microcontroller
footprint QFP44_08MM
pins: 1 ~{RESET} (io), 2 PTC0/TxD2 (io), 3 PTC1/RxD2 (io), 4 PTC2/SDA1 (io), 5 PTC3/SCL1 (io), 6 PTC4 (io), 7 PTC5 (io), 8 PTC6 (io), 9 PTE0/TxD1 (io), 10 PTE1/RxD1 (io), 11 IRQ (in), 12 PTE2/~{SS1} (io), 13 PTE3/MISO1 (io), 14 PTE4/MOSI1 (io), 15 PTE5/SPSCK1 (io), 16 VSS (power), 17 VDD (power), 18 PTD0/TPM1CH0 (io), 19 PTD1/TPM1CH1 (io), 20 PTD3/TPM2CH0 (io), 21 PTD4/TPM2CH1 (io), 22 PTB0/AD1P0 (io), 23 PTB1/AD1P1 (io), 24 PTB2/AD1P2 (io), 25 PTB3/AD1P3 (io), 26 PTB4/AD1P4 (io), 27 PTB5/AD1P5 (io), 28 PTB6/AD1P6 (io), 29 PTB7/AD1P7 (io), 30 VREFH (power), 31 VREFL (power), 32 PTA0/KBI1P0 (io), 33 PTA1/KBI1P1 (io), 34 PTA2/KBI1P2 (io), 35 PTA3/KBI1P3 (io), 36 PTA4/KBI1P4 (io), 37 PTA5/KBI1P5 (io), 38 PTA6/KBI1P6 (io), 39 PTA7/KBI1P7 (io), 40 VDDAD (power), 41 VSSAD (power), 42 PTG0/BKGD/MS, 43 PTG1/XTAL (io), 44 PTG2/EXTAL (io)
text: RESET

## MC9S12A64CFU
designator U?
16-Bit Microcontroller; Price: ?
footprint QFP80_065
pins: 1 PWM3/KWP3/PP3 (io), 2 PWM2/KWP2/PP2 (io), 3 PWM1/KWP1/PP1 (io), 4 PWM0/KWP0/PP0 (io), 5 IOC0/PT0 (io), 6 IOC1/PT1 (io), 7 IOC2/PT2 (io), 8 IOC3/PT3 (io), 9 VDD1 (power), 10 VSS1 (power), 11 IOC4/PT4 (io), 12 IOC5/PT5 (io), 13 IOC6/PT6 (io), 14 IOC7/PT7 (io), 15 MODC/~{TAGHI}/BKGD (io), 16 ADDR0/DATA0/PB0 (io), 17 ADDR1/DATA1/PB1 (io), 18 ADDR2/DATA2/PB2 (io), 19 ADDR3/DATA3/PB3 (io), 20 ADDR4/DATA4/PB4 (io), 21 ADDR5/DATA5/PB5 (io), 22 ADDR6/DATA6/PB6 (io), 23 ADDR7/DATA7/PB7 (io), 24 ~{XCLKS}/NOACC/PE7 (io), 25 MODB/IPIPE1/PE6 (io), 26 MODA/IPIPE0/PE5 (io), 27 ECLK/PE4 (io), 28 VSSR (power), 29 VDDR (power), 30 ~{RESET} (io), 31 VDDPLL (power), 32 XFC, 33 VSSPLL (power), 34 EXTAL (in), 35 XTAL (out), 36 TEST (in), 37 ~{LSTRB}/~{TAGLO}/PE3 (io), 38 R/~{W}/PE2 (io), 39 ~{IRQ}/PE1 (in), 40 ~{XIRQ}/PE0 (in), 41 PA0/ADDR8/DATA8 (io), 42 PA1/ADDR9/DATA9 (io), 43 PA2/ADDR10/DATA10 (io), 44 PA3/ADDR11/DATA11 (io), 45 PA4/ADDR12/DATA12 (io), 46 PA5/ADDR13/DATA13 (io), 47 PA6/ADDR14/DATA14 (io), 48 PA7/ADDR15/DATA15 (io), 49 VDD2 (power), 50 VSS2 (power), 51 PAD0/AN0 (in), 52 PAD1/AN1 (in), 53 PAD2/AN2 (in), 54 PAD3/AN3 (in), 55 PAD4/AN4 (in), 56 PAD5/AN5 (in), 57 PAD6/AN6 (in), 58 PAD7/AN7/ETRIG0 (in), 59 VDDA (power), 60 VRH (in), 61 VRL (in), 62 VSSA (power), 63 PS0/RXD0 (io), 64 PS1/TXD0 (io), 65 PS2/RXD1 (io), 66 PS3/TXD1 (io), 67 VREGEN (in), 68 PJ7/KWJ7/SCL/TXCAN0 (io), 69 PJ6/KWJ6/SDA/RXCAN0 (io), 70 PM5/TXCAN0/SCK0 (io), 71 PM4/RXCAN0/MOSI (io), 72 PM3/TXCAN0/~{SS}0 (io), 73 PM2/RXCAN0/MISO0 (io), 74 PM1/TXCAN0/TXB (io), 75 PM0/RXCAN0/RXB (io), 76 VSSX (power), 77 VDDX (power), 78 PP7/KWP7/PWM7 (io), 79 PP5/KWP5/PWM5 (io), 80 PP4/KWP4/PWM4 (io)

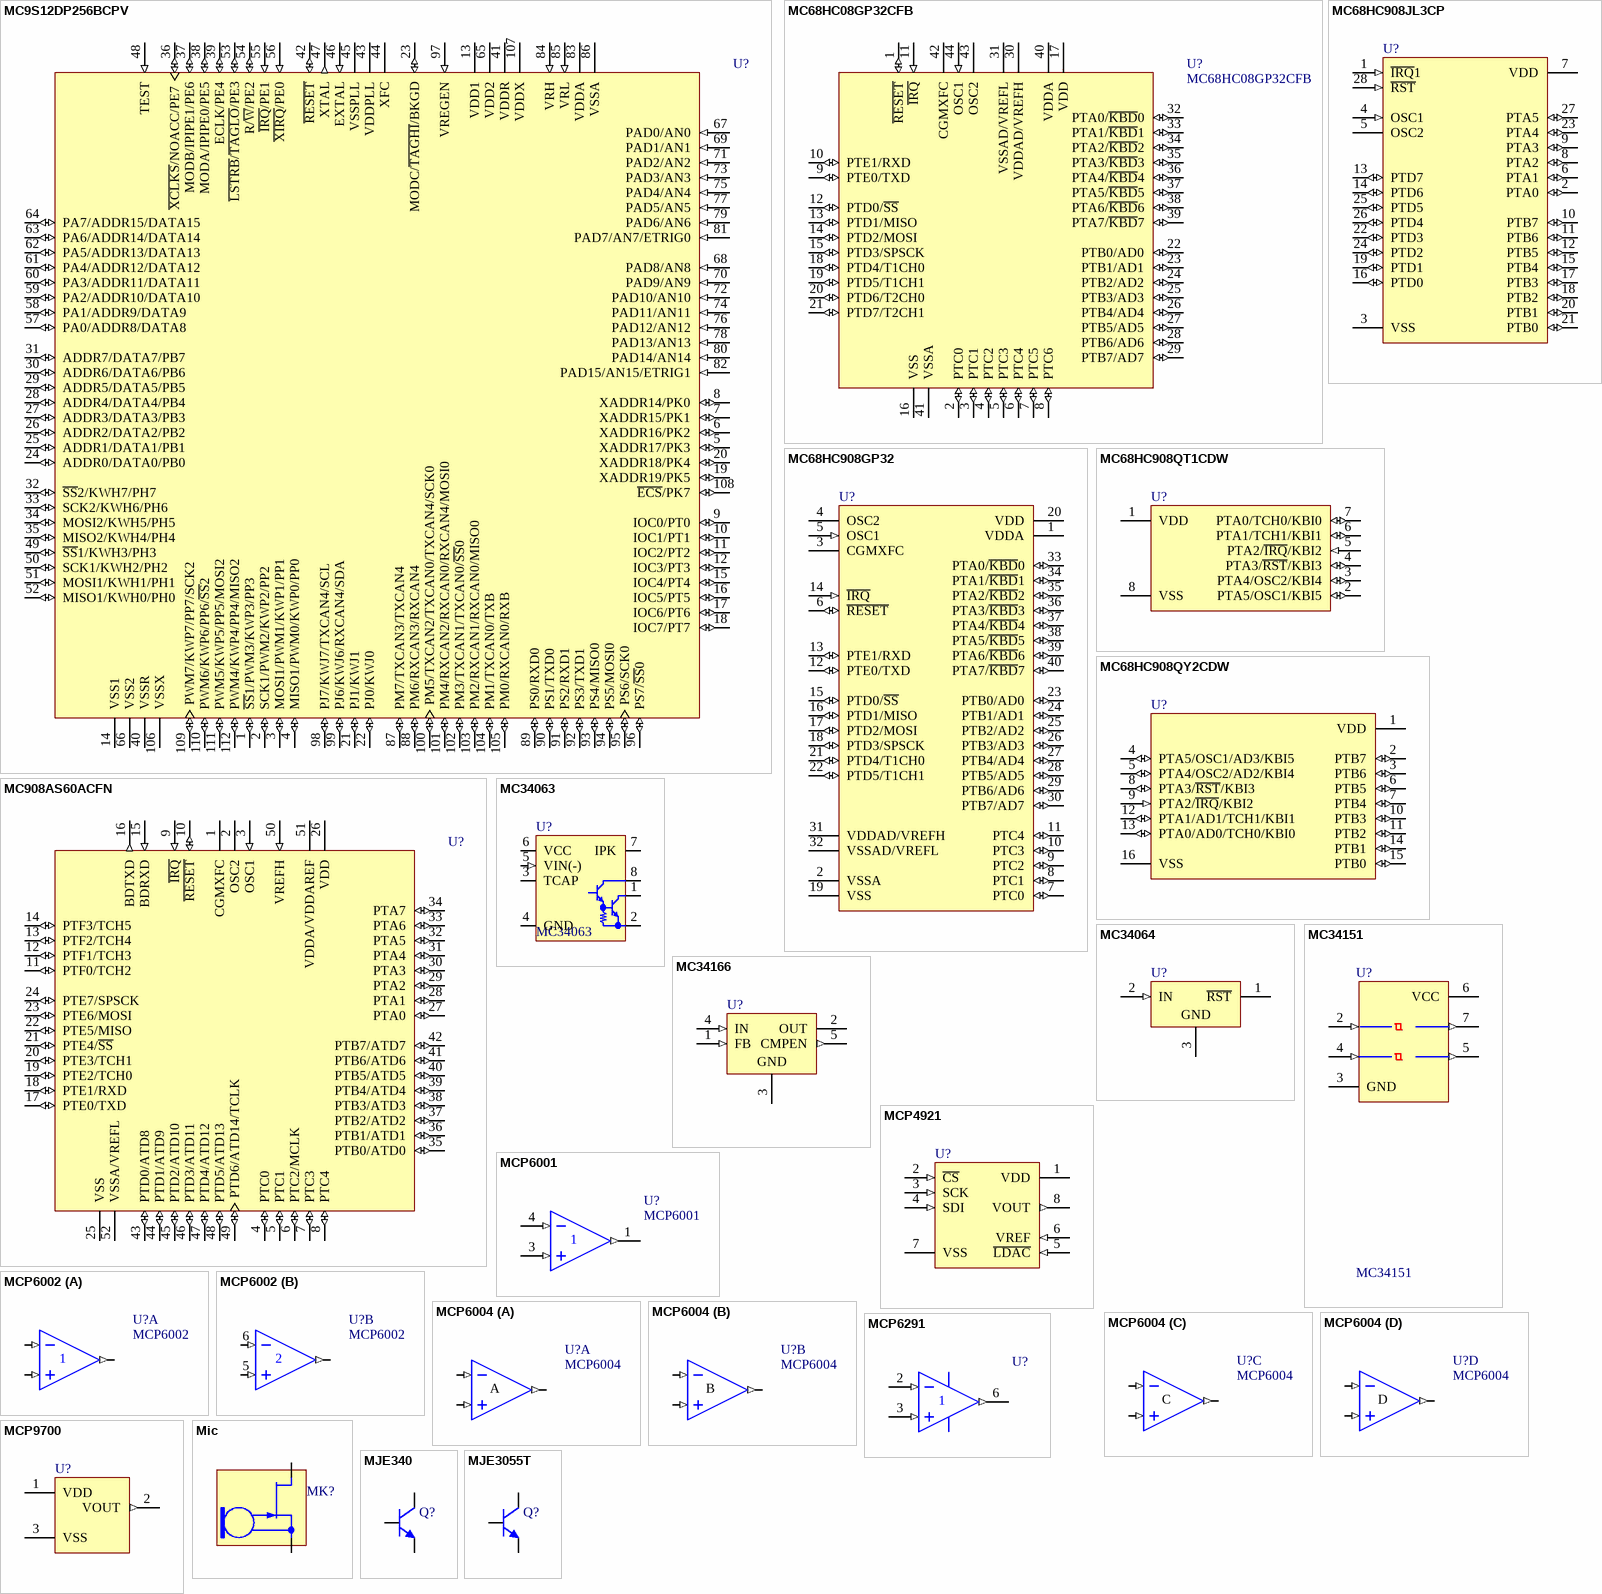
[diagram p16: symbols MC9S12DP256BCPV to MJE3055T]

## MC9S12DP256BCPV
designator U?
16-Bit Microcontroller
footprint QFP112_065
pins: 1 ~{SS}1/PWM3/KWP3/PP3 (io), 2 SCK1/PWM2/KWP2/PP2 (io), 3 MOSI1/PWM1/KWP1/PP1 (io), 4 MISO1/PWM0/KWP0/PP0 (io), 5 XADDR17/PK3 (io), 6 XADDR16/PK2 (io), 7 XADDR15/PK1 (io), 8 XADDR14/PK0 (io), 9 IOC0/PT0 (io), 10 IOC1/PT1 (io), 11 IOC2/PT2 (io), 12 IOC3/PT3 (io), 13 VDD1 (power), 14 VSS1 (power), 15 IOC4/PT4 (io), 16 IOC5/PT5 (io), 17 IOC6/PT6 (io), 18 IOC7/PT7 (io), 19 XADDR19/PK5 (io), 20 XADDR18/PK4 (io), 21 PJ1/KWJ1 (io), 22 PJ0/KWJ0 (io), 23 MODC/~{TAGHI}/BKGD (io), 24 ADDR0/DATA0/PB0 (io), 25 ADDR1/DATA1/PB1 (io), 26 ADDR2/DATA2/PB2 (io), 27 ADDR3/DATA3/PB3 (io), 28 ADDR4/DATA4/PB4 (io), 29 ADDR5/DATA5/PB5 (io), 30 ADDR6/DATA6/PB6 (io), 31 ADDR7/DATA7/PB7 (io), 32 ~{SS}2/KWH7/PH7 (io), 33 SCK2/KWH6/PH6 (io), 34 MOSI2/KWH5/PH5 (io), 35 MISO2/KWH4/PH4 (io), 36 ~{XCLKS}/NOACC/PE7 (io), 37 MODB/IPIPE1/PE6 (io), 38 MODA/IPIPE0/PE5 (io), 39 ECLK/PE4 (io), 40 VSSR (power), 41 VDDR (power), 42 ~{RESET} (io), 43 VDDPLL (power), 44 XFC, 45 VSSPLL (power), 46 EXTAL (in), 47 XTAL (out), 48 TEST (in), 49 ~{SS}1/KWH3/PH3 (io), 50 SCK1/KWH2/PH2 (io), 51 MOSI1/KWH1/PH1 (io), 52 MISO1/KWH0/PH0 (io), 53 ~{LSTRB}/~{TAGLO}/PE3 (io), 54 R/~{W}/PE2 (io), 55 ~{IRQ}/PE1 (in), 56 ~{XIRQ}/PE0 (in), 57 PA0/ADDR8/DATA8 (io), 58 PA1/ADDR9/DATA9 (io), 59 PA2/ADDR10/DATA10 (io), 60 PA3/ADDR11/DATA11 (io), 61 PA4/ADDR12/DATA12 (io), 62 PA5/ADDR13/DATA13 (io), 63 PA6/ADDR14/DATA14 (io), 64 PA7/ADDR15/DATA15 (io), 65 VDD2 (power), 66 VSS2 (power), 67 PAD0/AN0 (in), 68 PAD8/AN8 (in), 69 PAD1/AN1 (in), 70 PAD9/AN9 (in), 71 PAD2/AN2 (in), 72 PAD10/AN10 (in), 73 PAD3/AN3 (in), 74 PAD11/AN11 (in), 75 PAD4/AN4 (in), 76 PAD12/AN12 (in), 77 PAD5/AN5 (in), 78 PAD13/AN13 (in), 79 PAD6/AN6 (in), 80 PAD14/AN14 (in), 81 PAD7/AN7/ETRIG0 (in), 82 PAD15/AN15/ETRIG1 (in), 83 VDDA (power), 84 VRH (in), 85 VRL (in), 86 VSSA (power), 87 PM7/TXCAN3/TXCAN4 (io), 88 PM6/RXCAN3/RXCAN4 (io), 89 PS0/RXD0 (io), 90 PS1/TXD0 (io), 91 PS2/RXD1 (io), 92 PS3/TXD1 (io), 93 PS4/MISO0 (io), 94 PS5/MOSI0 (io), 95 PS6/SCK0 (io), 96 PS7/~{SS}0 (io), 97 VREGEN (in), 98 PJ7/KWJ7/TXCAN4/SCL (io), 99 PJ6/KWJ6/RXCAN4/SDA (io), 100 PM5/TXCAN2/TXCAN0/TXCAN4/SCK0 (io), 101 PM4/RXCAN2/RXCAN0/RXCAN4/MOSI0 (io), 102 PM3/TXCAN1/TXCAN0/~{SS}0 (io), 103 PM2/RXCAN1/RXCAN0/MISO0 (io), 104 PM1/TXCAN0/TXB (io), 105 PM0/RXCAN0/RXB (io), 106 VSSX (power), 107 VDDX (power), 108 ~{ECS}/PK7 (io), 109 PWM7/KWP7/PP7/SCK2 (io), 110 PWM6/KWP6/PP6/~{SS}2 (io), 111 PWM5/KWP5/PP5/MOSI2 (io), 112 PWM4/KWP4/PP4/MISO2 (io)

## MC68HC08GP32CFB
designator U?
8-Bit Microcontroller; Note: Any unused inputs and I/O ports should be tied to an appropriate logic level (either VDD or VSS ). Although the I/O ports of the MC68HC908GP32 do not require termination, termination is recommended to reduce the possibility of static damage.; Published: 17-Jan-2003; LatestRevisionDate: 13-Apr-2006; LatestRevisionNote: IPC-7351 Footprint Added.; DatasheetVersion: Rev 6, 8/2002; PackageVersion: rev5, Apr-2002; PackageReference: 824A-01; Publisher: Altium Limited; PackageDescription: 44-Pin Quad Flat Pack 0.8 mm Pitch; Code_JEDEC: MS-022-AB; Code_IPC: QFP80P1320X1320-44; ComponentLink1Description: Manufacturer Link; ComponentLink1URL: http://www.freescale.com/; ComponentLink2Description: Datasheet; ComponentLink2URL: http://www.freescale.com/files/microcontrollers/doc/data_sheet/MC68HC908GP32.pdf
footprint QFP44_08MM
footprint 824A-01_L (QFP, 44-Leads, Body 10x10mm, Pitch 0.8mm, IPC High Density)
footprint 824A-01_M (QFP, 44-Leads, Body 10x10mm, Pitch 0.8mm, IPC Low Density)
pins: 1 ~{RESET} (io), 2 PTC0 (io), 3 PTC1 (io), 4 PTC2 (io), 5 PTC3 (io), 6 PTC4 (io), 7 PTC5 (io), 8 PTC6 (io), 9 PTE0/TXD (io), 10 PTE1/RXD (io), 11 ~{IRQ} (in), 12 PTD0/~{SS} (io), 13 PTD1/MISO (io), 14 PTD2/MOSI (io), 15 PTD3/SPSCK (io), 16 VSS (power), 17 VDD (power), 18 PTD4/T1CH0 (io), 19 PTD5/T1CH1 (io), 20 PTD6/T2CH0 (io), 21 PTD7/T2CH1 (io), 22 PTB0/AD0 (io), 23 PTB1/AD1 (io), 24 PTB2/AD2 (io), 25 PTB3/AD3 (io), 26 PTB4/AD4 (io), 27 PTB5/AD5 (io), 28 PTB6/AD6 (io), 29 PTB7/AD7 (io), 30 VDDAD/VREFH (power), 31 VSSAD/VREFL (power), 32 PTA0/~{KBD}0 (io), 33 PTA1/~{KBD}1 (io), 34 PTA2/~{KBD}2 (io), 35 PTA3/~{KBD}3 (io), 36 PTA4/~{KBD}4 (io), 37 PTA5/~{KBD}5 (io), 38 PTA6/~{KBD}6 (io), 39 PTA7/~{KBD}7 (io), 40 VDDA (power), 41 VSSA (power), 42 CGMXFC, 43 OSC2, 44 OSC1 (in)

## MC68HC908GP32
designator U?
8-Bit Microcontroller; Note: Tie unused inputs & I/O ports to the appropriate logic level (either VDD or VSS ) to reduce the possibility of electro-static discharge damage.; Published: 17-Jan-2003; Datasheet: Latest Revision: Rev 6, 8/2002; Package Reference: 711-03; Publisher: Altium Limited
footprint DIP40 (DIP40 IC)
footprint DIP40z (DIP40 ZOCALO)
pins: 1 VDDA (power), 2 VSSA (power), 3 CGMXFC, 4 OSC2, 5 OSC1 (in), 6 ~{RESET} (io), 7 PTC0 (io), 8 PTC1 (io), 9 PTC2 (io), 10 PTC3 (io), 11 PTC4 (io), 12 PTE0/TXD (io), 13 PTE1/RXD (io), 14 ~{IRQ} (in), 15 PTD0/~{SS} (io), 16 PTD1/MISO (io), 17 PTD2/MOSI (io), 18 PTD3/SPSCK (io), 19 VSS (power), 20 VDD (power), 21 PTD4/T1CH0 (io), 22 PTD5/T1CH1 (io), 23 PTB0/AD0 (io), 24 PTB1/AD1 (io), 25 PTB2/AD2 (io), 26 PTB3/AD3 (io), 27 PTB4/AD4 (io), 28 PTB5/AD5 (io), 29 PTB6/AD6 (io), 30 PTB7/AD7 (io), 31 VDDAD/VREFH (power), 32 VSSAD/VREFL (power), 33 PTA0/~{KBD}0 (io), 34 PTA1/~{KBD}1 (io), 35 PTA2/~{KBD}2 (io), 36 PTA3/~{KBD}3 (io), 37 PTA4/~{KBD}4 (io), 38 PTA5/~{KBD}5 (io), 39 PTA6/~{KBD}6 (io), 40 PTA7/~{KBD}7 (io)

## MC68HC908JL3CP
designator U?
8-Bit Microcontroller; Price: ?
footprint DIP28 (DIP28 IC)
footprint DIP28Z (ZOCALO DIP28)
pins: 1 ~{IRQ}1 (in), 2 PTA0 (io), 3 VSS (power), 4 OSC1 (in), 5 OSC2, 6 PTA1 (io), 7 VDD (power), 8 PTA2 (io), 9 PTA3 (io), 10 PTB7 (io), 11 PTB6 (io), 12 PTB5 (io), 13 PTD7 (io), 14 PTD6 (io), 15 PTB4 (io), 16 PTD0 (io), 17 PTB3 (io), 18 PTB2 (io), 19 PTD1 (io), 20 PTB1 (io), 21 PTB0 (io), 22 PTD3 (io), 23 PTA4 (io), 24 PTD2 (io), 25 PTD5 (io), 26 PTD4 (io), 27 PTA5 (io), 28 ~{RST} (in)

## MC68HC908QT1CDW
designator U?
8-Bit Microcontroller; Price: ?
footprint SOEIAJ8 (Small Outline; 8 Leads; Body Width 5.3 mm; Pitch 1.27 mm)
pins: 1 VDD (power), 2 PTA5/OSC1/KBI5 (io), 3 PTA4/OSC2/KBI4 (io), 4 PTA3/~{RST}/KBI3 (io), 5 PTA2/~{IRQ}/KBI2 (in), 6 PTA1/TCH1/KBI1 (io), 7 PTA0/TCH0/KBI0 (io), 8 VSS (power)

## MC68HC908QY2CDW
designator U?
8-Bit Microcontroller
footprint SOIC16 (SOIC 16 IC)
pins: 1 VDD (power), 2 PTB7 (io), 3 PTB6 (io), 4 PTA5/OSC1/AD3/KBI5 (io), 5 PTA4/OSC2/AD2/KBI4 (io), 6 PTB5 (io), 7 PTB4 (io), 8 PTA3/~{RST}/KBI3 (io), 9 PTA2/~{IRQ}/KBI2 (in), 10 PTB3 (io), 11 PTB2 (io), 12 PTA1/AD1/TCH1/KBI1 (io), 13 PTA0/AD0/TCH0/KBI0 (io), 14 PTB1 (io), 15 PTB0 (io), 16 VSS (power)

## MC908AS60ACFN
designator U?
8-Bit Microcontroller; Price: ?
footprint PLCC52 (ZOCALO PLCC 52)
pins: 1 CGMXFC, 2 OSC2, 3 OSC1 (in), 4 PTC0 (io), 5 PTC1 (io), 6 PTC2/MCLK (io), 7 PTC3 (io), 8 PTC4 (io), 9 ~{IRQ} (in), 10 ~{RESET} (io), 11 PTF0/TCH2 (io), 12 PTF1/TCH3 (io), 13 PTF2/TCH4 (io), 14 PTF3/TCH5 (io), 15 BDRXD (in), 16 BDTXD (out), 17 PTE0/TXD (io), 18 PTE1/RXD (io), 19 PTE2/TCH0 (io), 20 PTE3/TCH1 (io), 21 PTE4/~{SS} (io), 22 PTE5/MISO (io), 23 PTE6/MOSI (io), 24 PTE7/SPSCK (io), 25 VSS (power), 26 VDD (power), 27 PTA0 (io), 28 PTA1 (io), 29 PTA2 (io), 30 PTA3 (io), 31 PTA4 (io), 32 PTA5 (io), 33 PTA6 (io), 34 PTA7 (io), 35 PTB0/ATD0 (io), 36 PTB1/ATD1 (io), 37 PTB2/ATD2 (io), 38 PTB3/ATD3 (io), 39 PTB4/ATD4 (io), 40 PTB5/ATD5 (io), 41 PTB6/ATD6 (io), 42 PTB7/ATD7 (io), 43 PTD0/ATD8 (io), 44 PTD1/ATD9 (io), 45 PTD2/ATD10 (io), 46 PTD3/ATD11 (io), 47 PTD4/ATD12 (io), 48 PTD5/ATD13 (io), 49 PTD6/ATD14/TCLK (io), 50 VREFH (in), 51 VDDA/VDDAREF (power), 52 VSSA/VREFL (power)

## MC34063
designator U?
DC-to-DC Converter Control Circuit
footprint dip8z (ZOCALO DIP 8)
pins: 1 SWC (oc), 2 SWE (oe), 3 TCAP, 4 GND (power), 5 VIN(-) (in), 6 VCC (power), 7 IPK, 8 DRVC (oc)

## MC34064
designator U?
Under-Voltage Sensing Circuit; Package Information: Latest Revision: 1996; Published: 17-Jul-2002; Datasheet: Linear and Interface Integrated Circuits, DL128 Rev2 (1988); Package Reference: 29-04; Publisher: Altium Limited
footprint TO92B
pins: 1 ~{RST} (oc), 2 IN (in), 3 GND (power)

## MC34151
designator U?
Price: ?
footprint DIP8 (DIP14 IC)
footprint DIP16Z (ZOCALO DIP16)
pins: 2 INA (in), 3 GND (power), 4 INB (in), 5 OUTB (out), 6 VCC (power), 7 OUTA (out)

## MC34166
designator U?
Power Switching Regulator
simulation model MC34166 (SUBCKT)
footprint TO220 - 5 - 90
pins: 1 FB (in), 2 OUT (oe), 3 GND (power), 4 IN (in), 5 CMPEN (out)

## MCP4921
designator U?
12-Bit Voltage Output Digital-to-Analog Converter
footprint so8 (SO8 IC)
pins: 1 VDD (power), 2 ~{CS} (in), 3 SCK (in), 4 SDI (in), 5 ~{LDAC} (in), 6 VREF (in), 7 VSS (power), 8 VOUT (out)

## MCP6001
designator U?
1 MHz Bandwidth Low Power Op Amp
footprint sot23-5
pins: 1 OUT (out), 2 V- (power), 3 IN+ (in), 4 IN- (in), 5 V+ (power)

## MCP6002
designator U?
1 MHz Bandwidth Low Power Op Amp
footprint dip8z (ZOCALO DIP 8)
pins on every part: 4 V- (power), 8 V+ (power)
part A pins: 1 OUT (out), 2 IN- (in), 3 IN+ (in)
part B pins: 5 IN+ (in), 6 IN- (in), 7 OUT (out)

## MCP6004
designator U?
Revision: 17-Jul-2002: Re-released for DXP Platform.
footprint DIP14Z (ZOCALO DIP14)
footprint so14 (SO14 IC)
pins on every part: 4 V+ (power), 11 V- (power)
part A pins: 1 OUT (out), 2 IN- (in), 3 IN+ (in)
part B pins: 5 IN+ (in), 6 IN- (in), 7 OUT (out)
part C pins: 8 OUT (out), 9 IN- (in), 10 IN+ (in)
part D pins: 12 IN+ (in), 13 IN- (in), 14 OUT (out)
part A text: A
part B text: B
part C text: C
part D text: D

## MCP6291
designator U?
10MHz Rail-to-Rail Op Amp
footprint dip8z (ZOCALO DIP 8)
pins: 2 IN- (in), 3 IN+ (in), 4 V- (power), 6 OUT (out), 7 V+ (power)
text: 1

## MCP9700
designator U?
Low-Power Linear Active Thermistor IC
footprint TO92 (DISPOSITIVO DE ENCAPSULADO TO-92)
footprint hdr3x1 (HEADER 3x1)
pins: 1 VDD (power), 2 VOUT (out), 3 VSS (power)

## Mic
designator MK?, comment Electret Mic  (value not drawn)
Electret Microphone
footprint electret (microfono electret)
pins: 1, 2

## MJE340
designator Q?
NPN Bipolar Transistor; Price: ?
footprint TO126; pin to pad 1>2 2>1
pins: 1 C, 2 B, 3 E

## MJE3055T
designator Q?
10A 60V NPN Bipolar Transistor; Price: 0.38
footprint TO220 (DISPOSITIVO DE ENCAPSULADO TO-220); pin to pad 1>2 2>1
simulation model MJE3055T (MDL)
pins: 1 C, 2 B, 3 E

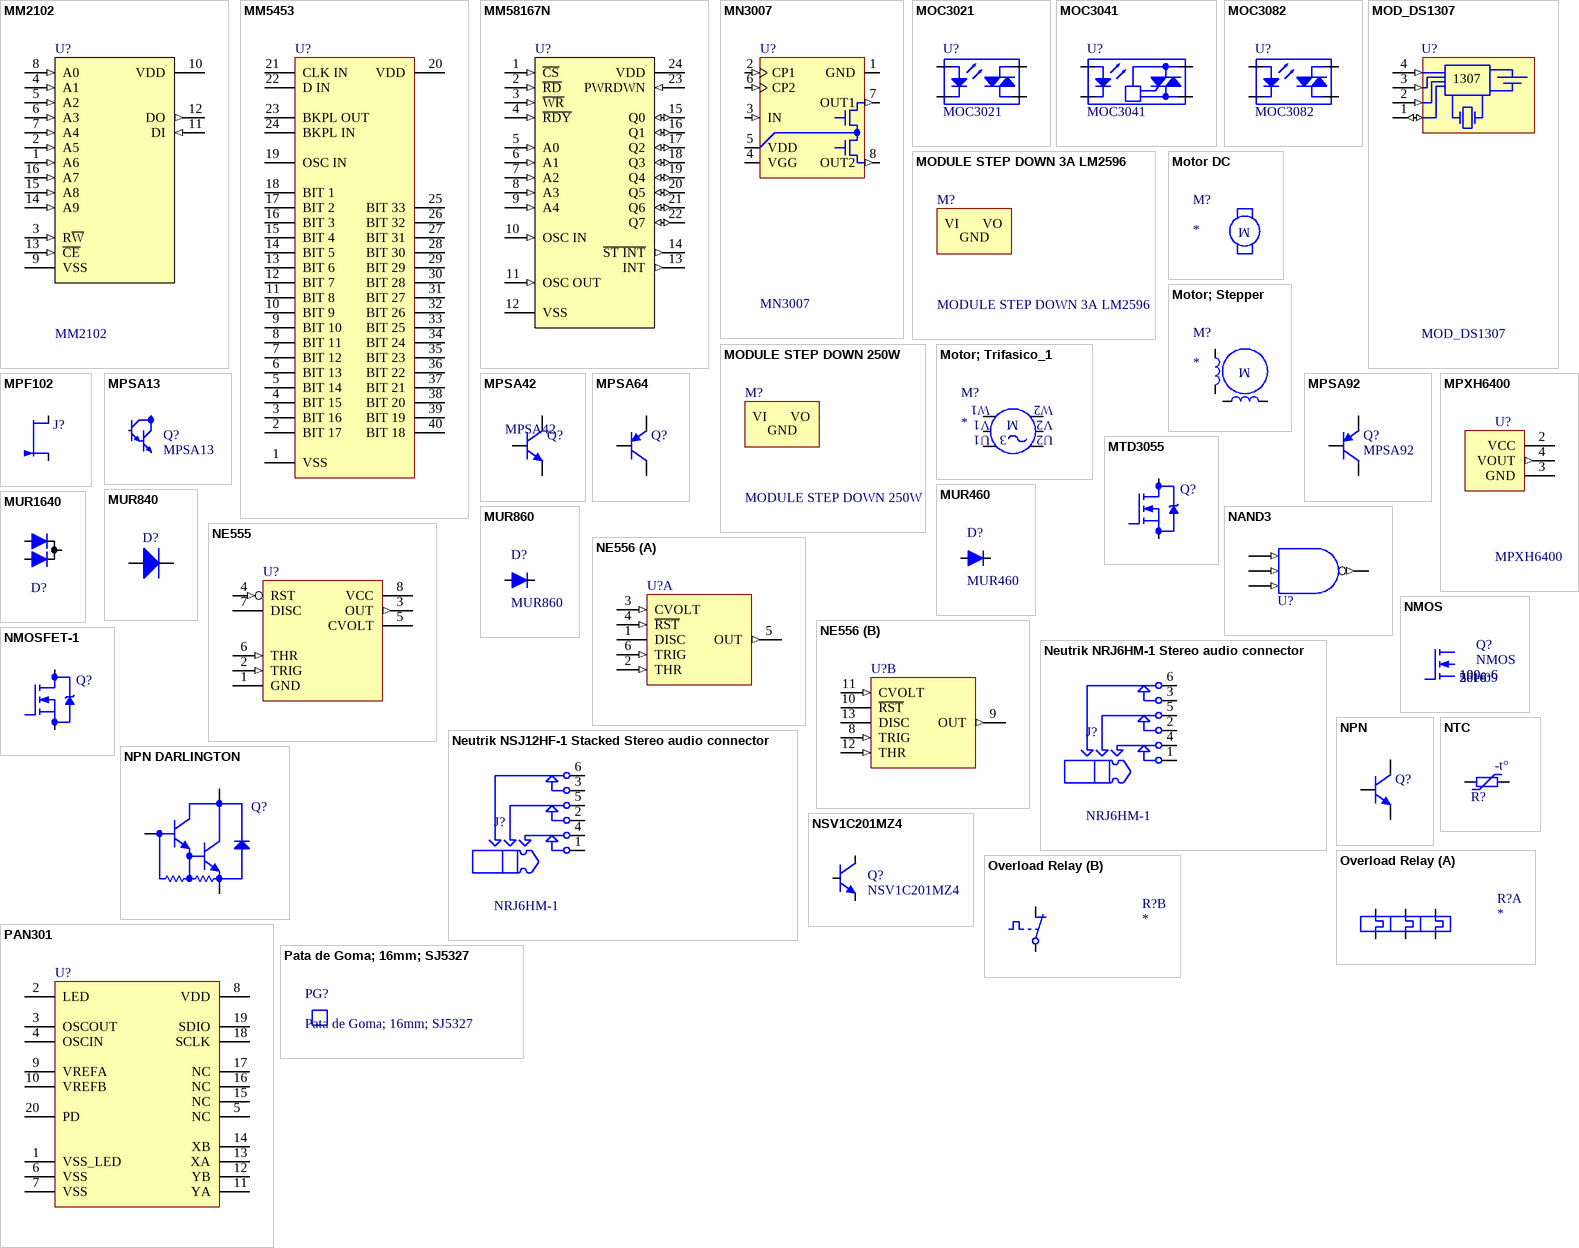
[diagram p17: symbols MM2102 to Pata de Goma; 16mm; SJ5327]

## MM2102
designator U?
Memory; Revision: 17-Jul-2002: Re-released for DXP Platform.
footprint DIP16 (DIP16 IC)
pins: 1 A6 (in), 2 A5 (in), 3 R~{W} (in), 4 A1 (in), 5 A2 (in), 6 A3 (in), 7 A4 (in), 8 A0 (in), 9 VSS (power), 10 VDD (power), 11 DI (in), 12 DO (out), 13 ~{CE} (in), 14 A9 (in), 15 A8 (in), 16 A7 (in)

## MM5453
designator U?
LCD Drivers; Price: ?
footprint DIP40 (DIP28 IC)
pins: 1 VSS (power), 2 BIT 17, 3 BIT 16, 4 BIT 15, 5 BIT 14, 6 BIT 13, 7 BIT 12, 8 BIT 11, 9 BIT 10, 10 BIT 9, 11 BIT 8, 12 BIT 7, 13 BIT 6, 14 BIT 5, 15 BIT 4, 16 BIT 3, 17 BIT 2, 18 BIT 1, 19 OSC IN, 20 VDD (power), 21 CLK IN, 22 D IN, 23 BKPL OUT, 24 BKPL IN, 25 BIT 33, 26 BIT 32, 27 BIT 31, 28 BIT 30, 29 BIT 29, 30 BIT 28, 31 BIT 27, 32 BIT 26, 33 BIT 25, 34 BIT 24, 35 BIT 23, 36 BIT 22, 37 BIT 21, 38 BIT 20, 39 BIT 19, 40 BIT 18

## MM58167N
designator U?
Microprocessor Real Time Clock; Revision: 17-Jul-2002: Re-released for DXP Platform.
footprint DIP24_600
pins: 1 ~{CS} (in), 2 ~{RD} (in), 3 ~{WR} (in), 4 ~{RDY} (in), 5 A0 (in), 6 A1 (in), 7 A2 (in), 8 A3 (in), 9 A4 (in), 10 OSC IN (in), 11 OSC OUT (in), 12 VSS (power), 13 INT (out), 14 ~{ST INT} (out), 15 Q0 (io), 16 Q1 (io), 17 Q2 (io), 18 Q3 (io), 19 Q4 (io), 20 Q5 (io), 21 Q6 (io), 22 Q7 (io), 23 PWRDWN (in), 24 VDD (power)

## MN3007
designator U?
footprint DIP8Z (ZOCALO DIP 8)
pins: 1 GND (power), 2 CP1 (in), 3 IN (in), 4 VGG (power), 5 VDD (power), 6 CP2 (in), 7 OUT1 (out), 8 OUT2 (out)

## MOC3021
designator U?
Opto-Triac; Revision: July-2002: Re-released for DXP Platform.
footprint DIP6
pins: 1 A, 2 K, 4, 6

## MOC3041
designator U?
Opto-Triac; Revision: July-2002: Re-released for DXP Platform.
footprint DIP6
pins: 1 A, 2 K, 4, 6

## MOC3082
designator U?
Opto-Triac; Revision: July-2002: Re-released for DXP Platform.
footprint DIP6
pins: 1 A, 2 K, 4, 6

## MOD_DS1307
designator U?
footprint MOD_DS1307
pins: 1 SDA (io), 2 SCL (in), 3 VCC (in), 4 GND (in)
text: 1307

## MODULE STEP DOWN 3A LM2596
designator M?
footprint LM2596 MODULE
footprint LM2596 MODULE HOLES
pins: 1 VI (power), 2 GND (power), 3 VO (power), 4 GND (power)

## MODULE STEP DOWN 250W
designator M?
footprint STEP DOWN 250W MODULE
pins: 1 VI (power), 2 GND (power), 3 VO (power), 4 GND (power)

## Motor DC
designator M?
pins: 1, 3
text: M

## Motor; Stepper
designator M?
pins: 1, 2, 3, 4
text: M

## Motor; Trifasico_1
designator M?
pins: 1, 1, 2, 2, 3, 3
text: W1; W2; V1; M; V2; U1; U2

## MPF102
designator J?
N-Channel JFET; Revision: July-2002: Re-released for DXP Platform.
simulation model MPF102 (SUBCKT)
footprint TO92 (DISPOSITIVO DE ENCAPSULADO TO-92); pin to pad 2>3 3>2
pins: 1 D, 2 G, 3 S

## MPSA13
designator Q?
NPN Bipolar Transistor; Price: ?
footprint to92 (DISPOSITIVO DE ENCAPSULADO TO-92); pin to pad 1>3 3>1
pins: 1 C, 2 B, 3 E

## MPSA42
designator Q?
NPN Bipolar Transistor; Price: ?
footprint to92b; pin to pad 1>3 3>1
simulation model MPSA42 (MDL)
pins: 1 C, 2 B, 3 E

## MPSA64
designator Q?
PNP Bipolar Transistor; Price: 0.3267
simulation model BC856A (PNP)
footprint to92 (DISPOSITIVO DE ENCAPSULADO TO-92); pin to pad 1>3 3>1
footprint to92c; pin to pad 1>3 3>1
pins: 1 C, 2 B, 3 E

## MPSA92
designator Q?
PNP Bipolar Transistor
simulation model QMPSA92 (PNP)
footprint to92 (DISPOSITIVO DE ENCAPSULADO TO-92); pin to pad 1>3 3>1
footprint to92c; pin to pad 1>3 3>1
pins: 1 C, 2 B, 3 E

## MPXH6400
designator U?
Price: ?
footprint MPXH6400A
pins: 2 VCC (power), 3 GND (power), 4 VOUT (out)

## MTD3055
designator Q?
60V  12A 0.12 ohm N-Channel Power MOSFET; Price: ?
simulation model MTD3055VL (SUBCKT)
pins: 1 G, 2 D, 3 S

## MUR460
designator D?
4A 600V Super Fast Rectifier; Price: ?
footprint d_do27
pins: 1, 2

## MUR840
designator D?
8A 400V Super Fast Rectifier; Price: ?
footprint TO220-2; pin to pad 1>2 2>1
pins: 1, 2

## MUR860
designator D?
Codigo Elemon: DI1322391; Dolares Elemon: 1.34998
footprint to220-2; pin to pad 1>2 2>1
pins: 1, 2

## MUR1640
designator D?
Ultrafast Rectifiers 16A 400V
footprint TO220 (DISPOSITIVO DE ENCAPSULADO TO-220)
pins: 1 A, 2 K, 3 A

## NAND3
designator U?
3-Input NAND Gate (simulación); Price: ?
pins: 1 A (in), 2 B (in), 3 C (in), 4 ~{O} (out)

## NE555
designator U?
Precision Timer; Revision: 17-Jul-2002: Re-released for DXP Platform.
footprint SO8 (SO8 IC)
footprint dip8Z (ZOCALO DIP 8)
pins: 1 GND (power), 2 TRIG (in), 3 OUT (out), 4 RST (in), 5 CVOLT, 6 THR (in), 7 DISC (oc), 8 VCC (power)

## NE556
designator U?
Dual Timer
footprint DIP14Z (ZOCALO DIP14)
pins on every part: 7 GND (power) hidden to GND, 14 VCC (power) hidden to VCC
part A pins: 1 DISC (oc), 2 THR (in), 3 CVOLT (in), 4 ~{RST} (in), 5 OUT (out), 6 TRIG (in)
part B pins: 8 TRIG (in), 9 OUT (out), 10 ~{RST}, 11 CVOLT (in), 12 THR (in), 13 DISC (oc)

## Neutrik NRJ6HM-1 Stereo audio connector
designator J?, comment NRJ6HM-1
Neutrik NRJ6HM-1 Stereo audio connector; Codigo Mouser: 568-NRJ6HM1; Dolares Mouser: 0.60; Dolares Mouser x10: 0.583; Dolares Mouser x25: 0.55; Dolares Mouser x50: 0.529; Dolares Mouser x100: 0.508
footprint audio6.5
footprint AUDIO NRJ6HM-1
pins: 1, 2, 3, 4, 5, 6

## Neutrik NSJ12HF-1 Stacked Stereo audio connector
designator J?, comment NRJ6HM-1
Neutrik NRJ6HM-1 Stereo audio connector; Codigo Mouser: 568-NRJ6HM1; Dolares Mouser: 0.60; Dolares Mouser x10: 0.583; Dolares Mouser x25: 0.55; Dolares Mouser x50: 0.529; Dolares Mouser x100: 0.508
footprint audio6.5
footprint AUDIO NRJ6HM-1
pins: 1, 2, 3, 4, 5, 6

## NMOS
designator Q?  Length: 100e-6  NSUB: 5e16  TOX: 20e-09  CAPMOD: 2
N-Channel MOSFET; Price: ?; Width: 100e-6; NCH: 5e16
simulation model NMOS_L49 (NMOS 4 TERMINALES)
simulation model NMOS_L14 (Model Description)
simulation model NMOS_L12 (Model Description)
simulation model NMOS_L9 (Model Description)
simulation model NMOS_L8 (Model Description)
simulation model NMOS_L6 (Model Description)
simulation model NMOS_L4 (Model Description)
simulation model NMOS_L3 (Model Description)
pins: 1 D, 2 G, 3 S, 4 B

## NMOSFET-1
designator Q?
Power Field Effect Transistor; Revision: 17-Jul-2002: Re-released for DXP Platform.
footprint TO220 (DISPOSITIVO DE ENCAPSULADO TO-220)
pins: 1 G, 2 D, 3 S

## NPN
designator Q?
NPN Bipolar Transistor; Price: 0.38
footprint to92 (DISPOSITIVO DE ENCAPSULADO TO-92)
footprint SOT23; pin to pad 1>3 2>1 3>2
simulation model QNPN (SUBCKT)
simulation model NPNDEF (MDL)
pins: 1 C, 2 B, 3 E

## NPN DARLINGTON
designator Q?
NPN Darlington Bipolar Transistor; Price: ?
simulation model TIP112 (SUBCKT)
simulation model TIP111 (SUBCKT)
pins: 1 C, 2 B, 3 E

## NSV1C201MZ4
designator Q?
Dolares Elemon: 0.03755; Codigo Elemon: TR1723021
footprint SOT223 (ENCAPSULADO SOT-223)
pins: 1 B, 2 C, 3 E, 4 C

## NTC
designator R?
NTC
footprint NTC15MM
pins: 1, 2
text: -t°

## Overload Relay
designator R?
part A pins: 1, 2, 3, 4, 5, 6
part B pins: 7, 8

## PAN301
designator U?
Optical mouse; Price: ?
footprint DIP20-70mils (DIP20 IC (SEPARACION DE 70 MILS ENTRE PINES))
pins: 1 VSS_LED, 2 LED, 3 OSCOUT, 4 OSCIN, 5 NC, 6 VSS, 7 VSS, 8 VDD, 9 VREFA, 10 VREFB, 11 YA, 12 YB, 13 XA, 14 XB, 15 NC, 16 NC, 17 NC, 18 SCLK, 19 SDIO, 20 PD

## Pata de Goma; 16mm; SJ5327
designator PG?  (mechanical)
Codigo Mouser: 517-SJ5327; Dolares Mouser x40: 0.197; Dolares Mouser x520: 0.176; Dolares Mouser x1000: 0.164; Dolares Mouser x5000: 0.143

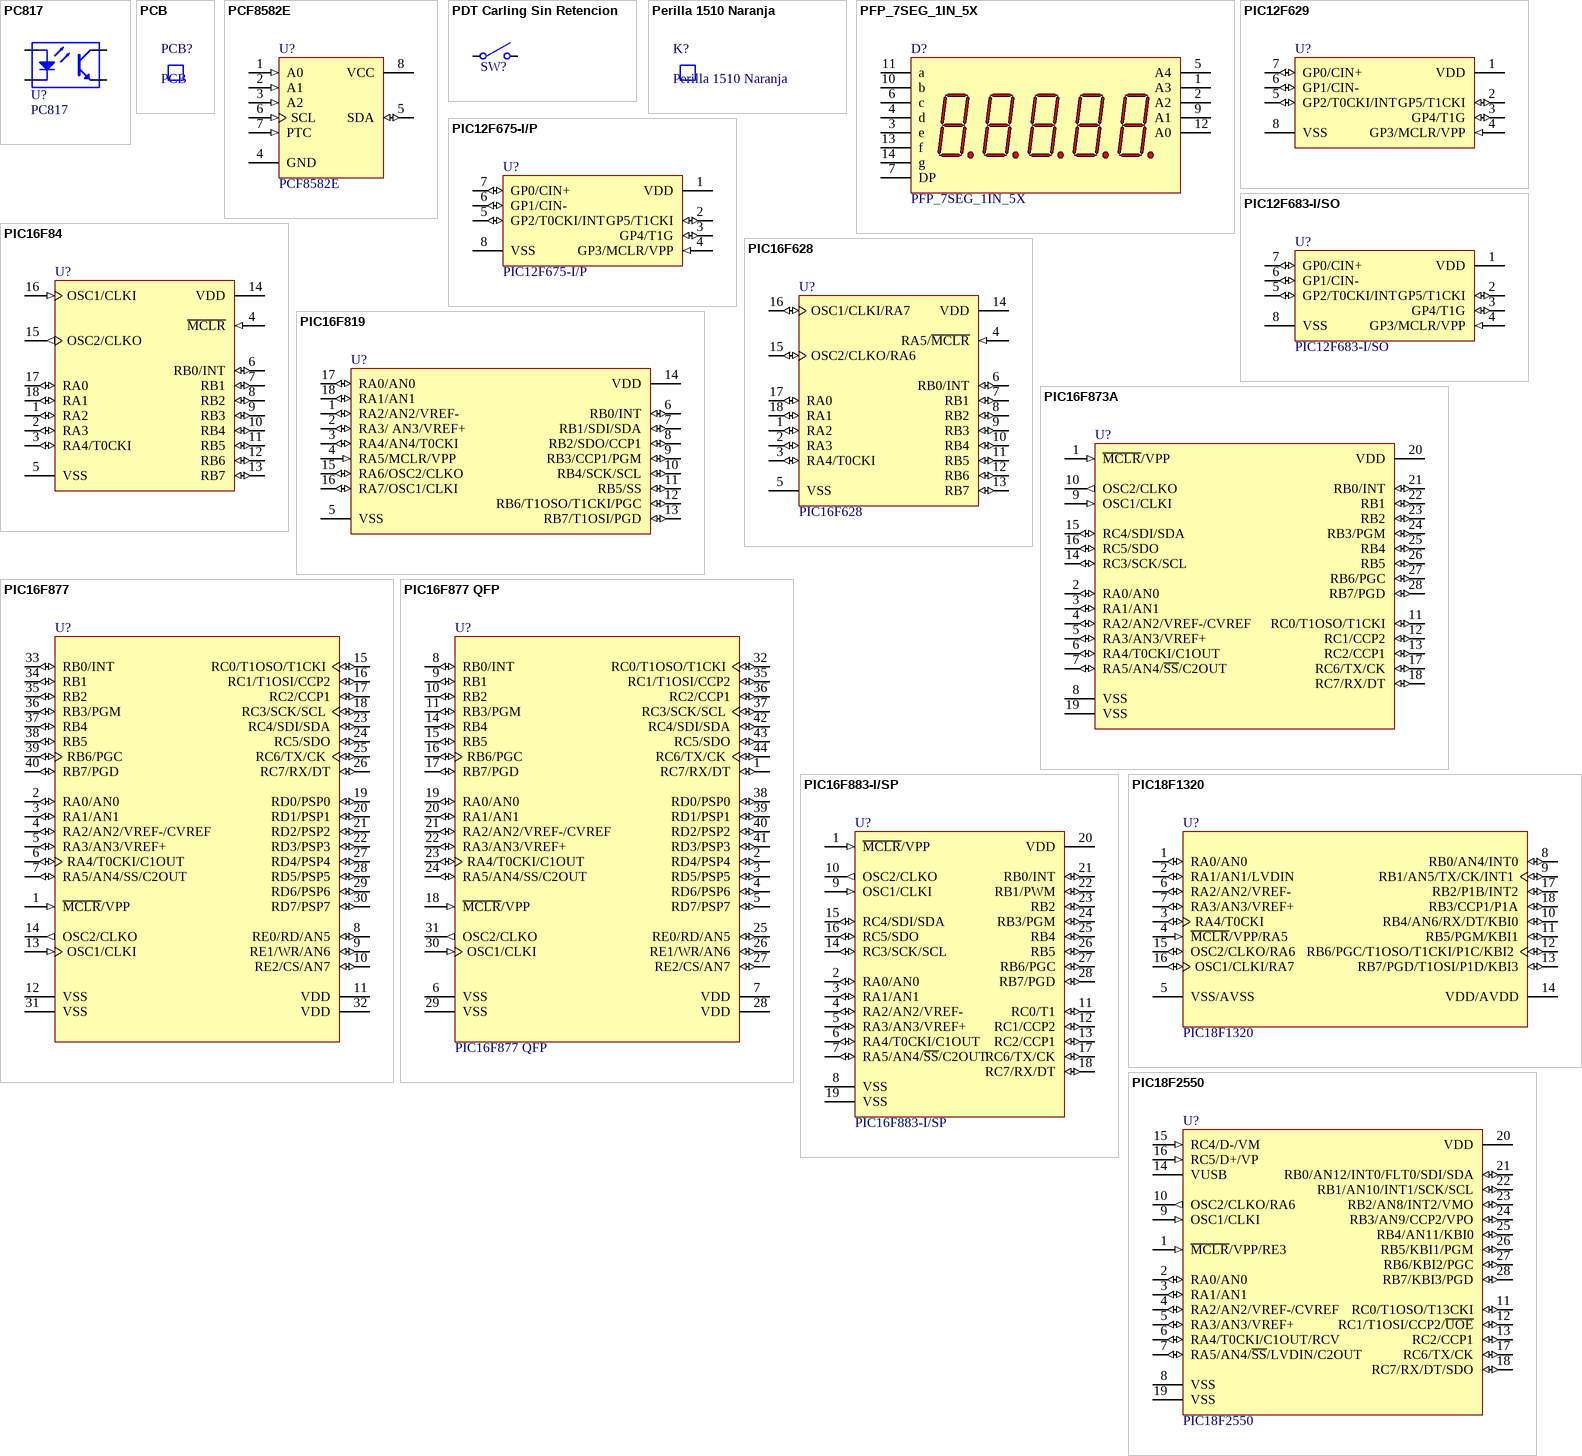
[diagram p18: symbols PC817 to PIC18F2550]

## PC817
designator U?
Codigo Elemon: OP1696350; Dolares Elemon: 0.20398
footprint DIP4 (DIP14 IC)
pins: 1 A, 2 K, 3 E, 4 C

## PCB
designator PCB?  (mechanical)

## PCF8582E
designator U?
Serial I²C Bus EEPROM
footprint dip8z (ZOCALO DIP 8)
pins: 1 A0 (in), 2 A1 (in), 3 A2 (in), 4 GND (power), 5 SDA (io), 6 SCL (in), 7 PTC (in), 8 VCC (power)

## PDT Carling Sin Retencion
designator SW?, comment PDT Carling  (value not drawn)
PDT Carling Sin Retencion; Price: ?; Codigo Mouser: 691-64111222; Dolares Mouser x100: 6.67; Dolares Mouser x50: 7.59; Dolares Mouser: 11.50; Dolares Mouser x25: 8.28
footprint 1PDT - CARLING (64111212)
pins: 1, 2

## Perilla 1510 Naranja
designator K?
Dolares Guitar Pedal Parts: 0.60
footprint Perilla 1510 Naranja - espacio 500mils

## PFP_7SEG_1IN_5X
designator D?
footprint PFP_7SEG_1IN_5X
pins: 1 A3 "Anode", 2 A2 "Anode", 3 e "Cathode", 4 d "Cathode", 5 A4 "Anode", 6 c "Cathode", 7 DP "Cathode", 9 A1 "Anode", 10 b "Cathode", 11 a "Cathode", 12 A0 "Anode", 13 f "Cathode", 14 g "Cathode"

## PIC12F629
designator U?
8-Bit CMOS Microcontroller; Price: ?
footprint DIP8Z (ZOCALO DIP 8)
pins: 1 VDD (power), 2 GP5/T1CKI (io), 3 GP4/T1G (io), 4 GP3/MCLR/VPP (in), 5 GP2/T0CKI/INT (io), 6 GP1/CIN- (io), 7 GP0/CIN+ (io), 8 VSS (power)

## PIC12F675-I/P
designator U?
Codigo Elemon: MI2982450; Dolares Elemon: 1.85899
footprint DIP8Z (ZOCALO DIP 8)
pins: 1 VDD (power), 2 GP5/T1CKI (io), 3 GP4/T1G (io), 4 GP3/MCLR/VPP (in), 5 GP2/T0CKI/INT (io), 6 GP1/CIN- (io), 7 GP0/CIN+ (io), 8 VSS (power)

## PIC12F683-I/SO
designator U?
Dolares Elemon: 3.16887; Codigo Elemon: MI2982485
footprint SOIC8 (Small Outline; 8 Leads; Body Width 6 mm; Pitch 1.27 mm)
pins: 1 VDD (power), 2 GP5/T1CKI (io), 3 GP4/T1G (io), 4 GP3/MCLR/VPP (in), 5 GP2/T0CKI/INT (io), 6 GP1/CIN- (io), 7 GP0/CIN+ (io), 8 VSS (power)

## PIC16F84
designator U?
8-Bit CMOS Microcontroller; Price: ?
footprint DIP18Z (ZOCALO DIP18)
pins: 1 RA2 (io), 2 RA3 (io), 3 RA4/T0CKI (io), 4 ~{MCLR} (in), 5 VSS (power), 6 RB0/INT (io), 7 RB1 (io), 8 RB2 (io), 9 RB3 (io), 10 RB4 (io), 11 RB5 (io), 12 RB6 (io), 13 RB7 (io), 14 VDD (power), 15 OSC2/CLKO (out), 16 OSC1/CLKI (in), 17 RA0 (io), 18 RA1 (io)

## PIC16F628
designator U?
8-Bit CMOS Microcontroller; Price: ?
footprint DIP18Z (ZOCALO DIP18)
pins: 1 RA2 (io), 2 RA3 (io), 3 RA4/T0CKI (io), 4 RA5/~{MCLR} (in), 5 VSS (power), 6 RB0/INT (io), 7 RB1 (io), 8 RB2 (io), 9 RB3 (io), 10 RB4 (io), 11 RB5 (io), 12 RB6 (io), 13 RB7 (io), 14 VDD (power), 15 OSC2/CLKO/RA6 (io), 16 OSC1/CLKI/RA7 (io), 17 RA0 (io), 18 RA1 (io)

## PIC16F819
designator U?
Enhanced FLASH Microcontroller
footprint DIP18Z (ZOCALO DIP18)
pins: 1 RA2/AN2/VREF- (io), 2 RA3/
AN3/VREF+ (io), 3 RA4/AN4/T0CKI (io), 4 RA5/MCLR/VPP (in), 5 VSS (power), 6 RB0/INT (io), 7 RB1/SDI/SDA (io), 8 RB2/SDO/CCP1 (io), 9 RB3/CCP1/PGM (io), 10 RB4/SCK/SCL (io), 11 RB5/SS (io), 12 RB6/T1OSO/T1CKI/PGC (io), 13 RB7/T1OSI/PGD (io), 14 VDD (power), 15 RA6/OSC2/CLKO (io), 16 RA7/OSC1/CLKI (io), 17 RA0/AN0 (io), 18 RA1/AN1 (io)

## PIC16F873A
designator U?
Enhanced FLASH Microcontroller
footprint DIP28Z2
pins: 1 ~{MCLR}/VPP (in), 2 RA0/AN0 (io), 3 RA1/AN1 (io), 4 RA2/AN2/VREF-/CVREF (io), 5 RA3/AN3/VREF+ (io), 6 RA4/T0CKI/C1OUT (io), 7 RA5/AN4/~{SS}/C2OUT (io), 8 VSS (power), 9 OSC1/CLKI (in), 10 OSC2/CLKO (out), 11 RC0/T1OSO/T1CKI (io), 12 RC1/CCP2 (io), 13 RC2/CCP1 (io), 14 RC3/SCK/SCL (io), 15 RC4/SDI/SDA (io), 16 RC5/SDO (io), 17 RC6/TX/CK (io), 18 RC7/RX/DT (io), 19 VSS (power), 20 VDD (power), 21 RB0/INT (io), 22 RB1 (io), 23 RB2 (io), 24 RB3/PGM (io), 25 RB4 (io), 26 RB5 (io), 27 RB6/PGC (io), 28 RB7/PGD (io)

## PIC16F877
designator U?
FLASH Microcontroller
footprint DIP40 (DIP40 IC)
pins: 1 ~{MCLR}/VPP (in), 2 RA0/AN0 (io), 3 RA1/AN1 (io), 4 RA2/AN2/VREF-/CVREF (io), 5 RA3/AN3/VREF+ (io), 6 RA4/T0CKI/C1OUT (io), 7 RA5/AN4/SS/C2OUT (io), 8 RE0/RD/AN5 (io), 9 RE1/WR/AN6 (io), 10 RE2/CS/AN7 (io), 11 VDD (power), 12 VSS (power), 13 OSC1/CLKI (in), 14 OSC2/CLKO (out), 15 RC0/T1OSO/T1CKI (io), 16 RC1/T1OSI/CCP2 (io), 17 RC2/CCP1 (io), 18 RC3/SCK/SCL (io), 19 RD0/PSP0 (io), 20 RD1/PSP1 (io), 21 RD2/PSP2 (io), 22 RD3/PSP3 (io), 23 RC4/SDI/SDA (io), 24 RC5/SDO (io), 25 RC6/TX/CK (io), 26 RC7/RX/DT (io), 27 RD4/PSP4 (io), 28 RD5/PSP5 (io), 29 RD6/PSP6 (io), 30 RD7/PSP7 (io), 31 VSS (power), 32 VDD (power), 33 RB0/INT (io), 34 RB1 (io), 35 RB2 (io), 36 RB3/PGM (io), 37 RB4 (io), 38 RB5 (io), 39 RB6/PGC (io), 40 RB7/PGD (io)

## PIC16F877 QFP
designator U?
FLASH Microcontroller
footprint QFP44_08MM
pins: 1 RC7/RX/DT (io), 2 RD4/PSP4 (io), 3 RD5/PSP5 (io), 4 RD6/PSP6 (io), 5 RD7/PSP7 (io), 6 VSS (power), 7 VDD (power), 8 RB0/INT (io), 9 RB1 (io), 10 RB2 (io), 11 RB3/PGM (io), 14 RB4 (io), 15 RB5 (io), 16 RB6/PGC (io), 17 RB7/PGD (io), 18 ~{MCLR}/VPP (in), 19 RA0/AN0 (io), 20 RA1/AN1 (io), 21 RA2/AN2/VREF-/CVREF (io), 22 RA3/AN3/VREF+ (io), 23 RA4/T0CKI/C1OUT (io), 24 RA5/AN4/SS/C2OUT (io), 25 RE0/RD/AN5 (io), 26 RE1/WR/AN6 (io), 27 RE2/CS/AN7 (io), 28 VDD (power), 29 VSS (power), 30 OSC1/CLKI (in), 31 OSC2/CLKO (out), 32 RC0/T1OSO/T1CKI (io), 35 RC1/T1OSI/CCP2 (io), 36 RC2/CCP1 (io), 37 RC3/SCK/SCL (io), 38 RD0/PSP0 (io), 39 RD1/PSP1 (io), 40 RD2/PSP2 (io), 41 RD3/PSP3 (io), 42 RC4/SDI/SDA (io), 43 RC5/SDO (io), 44 RC6/TX/CK (io)

## PIC16F883-I/SP
designator U?
Codigo Elemon: MI2986410; Dolares Elemon: 3.21801
footprint DIP28 300MILS (DIP16 IC)
pins: 1 ~{MCLR}/VPP (in), 2 RA0/AN0 (io), 3 RA1/AN1 (io), 4 RA2/AN2/VREF- (io), 5 RA3/AN3/VREF+ (io), 6 RA4/T0CKI/C1OUT (io), 7 RA5/AN4/~{SS}/C2OUT (io), 8 VSS (power), 9 OSC1/CLKI (in), 10 OSC2/CLKO (out), 11 RC0/T1 (io), 12 RC1/CCP2 (io), 13 RC2/CCP1 (io), 14 RC3/SCK/SCL (io), 15 RC4/SDI/SDA (io), 16 RC5/SDO (io), 17 RC6/TX/CK (io), 18 RC7/RX/DT (io), 19 VSS (power), 20 VDD (power), 21 RB0/INT (io), 22 RB1/PWM (io), 23 RB2 (io), 24 RB3/PGM (io), 25 RB4 (io), 26 RB5 (io), 27 RB6/PGC (io), 28 RB7/PGD (io)

## PIC18F1320
designator U?
High Performance, Enhanced FLASH Microcontroller with 10-Bit A/D and nanoWatt Technology, 8K FLASH, 18-Pin PDIP, Standard Volt Range, Industrial Temperature
footprint dip18z (ZOCALO DIP18)
pins: 1 RA0/AN0 (io), 2 RA1/AN1/LVDIN (io), 3 RA4/T0CKI (io), 4 ~{MCLR}/VPP/RA5 (in), 5 VSS/AVSS (power), 6 RA2/AN2/VREF- (io), 7 RA3/AN3/VREF+ (io), 8 RB0/AN4/INT0 (io), 9 RB1/AN5/TX/CK/INT1 (io), 10 RB4/AN6/RX/DT/KBI0 (io), 11 RB5/PGM/KBI1 (io), 12 RB6/PGC/T1OSO/T1CKI/P1C/KBI2 (io), 13 RB7/PGD/T1OSI/P1D/KBI3 (io), 14 VDD/AVDD (power), 15 OSC2/CLKO/RA6 (io), 16 OSC1/CLKI/RA7 (io), 17 RB2/P1B/INT2 (io), 18 RB3/CCP1/P1A (io)